# Altium integrated library Xilinx PLD XC9500.IntLib: 114 symbols (part 5 of 7)
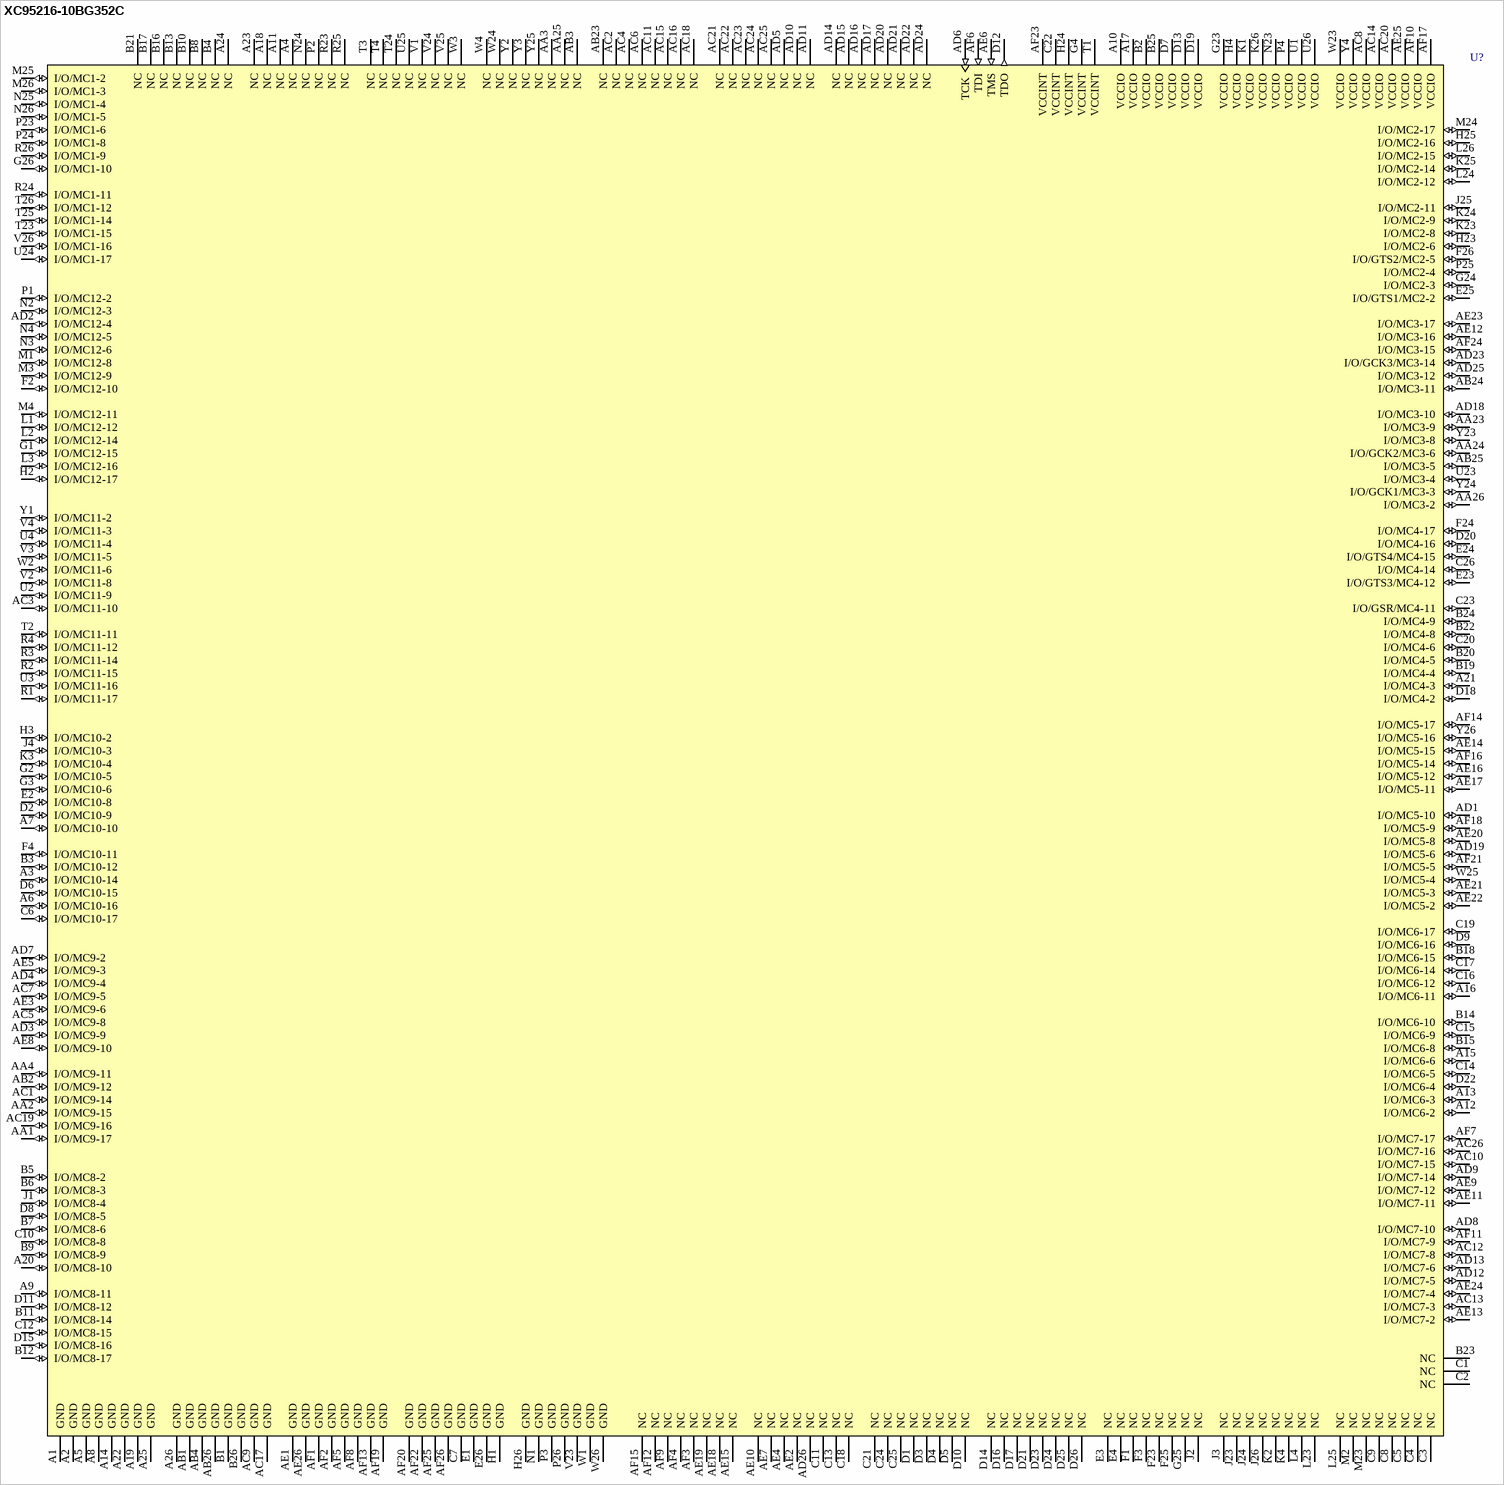
[diagram p54: symbol XC95216-10BG352C]

## XC95216-10BG352C
designator U?
XC9500, 5V CPLD with 216 Macrocells, 352-Ball BGA, Commercial Grade; PackageDocument: ver1.1, Apr-2001; Published: 8-Jun-2000; LatestRevisionDate: 17-Jul-2002; LatestRevisionNote: Re-released for DXP Platform.; DatasheetDocument: ver4.1, Aug-2003; PackageReference: BG352; Publisher: Altium Limited; Code_JEDEC: MO-192-BAR-2
footprint BG352 (352-Ball Metal Ball Grid Array (BG352))
3D model XC95216-BG352 (352-Ball Metal Ball Grid Array (BG352))
signal-integrity model XC95216_BGA352 (XC9500)
pins: A1 GND (power), A2 GND (power), A3 I/O/MC10-14 (io), A4 NC, A5 GND (power), A6 I/O/MC10-16 (io), A7 I/O/MC10-10 (io), A8 GND (power), A9 I/O/MC8-11 (io), A10 VCCIO (power), A11 NC, A12 I/O/MC6-2 (io), A13 I/O/MC6-3 (io), A14 GND (power), A15 I/O/MC6-6 (io), A16 I/O/MC6-11 (io), A17 VCCIO (power), A18 NC, A19 GND (power), A20 I/O/MC8-10 (io), A21 I/O/MC4-3 (io), A22 GND (power), A23 NC, A24 NC, A25 GND (power), A26 GND (power), AA1 I/O/MC9-17 (io), AA2 I/O/MC9-15 (io), AA3 NC, AA4 I/O/MC9-11 (io), AA23 I/O/MC3-9 (io), AA24 I/O/GCK2/MC3-6 (io), AA25 NC, AA26 I/O/MC3-2 (io), AB1 GND (power), AB2 I/O/MC9-12 (io), AB3 NC, AB4 GND (power), AB23 NC, AB24 I/O/MC3-11 (io), AB25 I/O/MC3-5 (io), AB26 GND (power), AC1 I/O/MC9-14 (io), AC2 NC, AC3 I/O/MC11-10 (io), AC4 NC, AC5 I/O/MC9-8 (io), AC6 NC, AC7 I/O/MC9-5 (io), AC8 VCCIO (power), AC9 GND (power), AC10 I/O/MC7-15 (io), AC11 NC, AC12 I/O/MC7-8 (io), AC13 I/O/MC7-3 (io), AC14 VCCIO (power), AC15 NC, AC16 NC, AC17 GND (power), AC18 NC, AC19 I/O/MC9-16 (io), AC20 VCCIO (power), AC21 NC, AC22 NC, AC23 NC, AC24 NC, AC25 NC, AC26 I/O/MC7-16 (io), AD1 I/O/MC5-10 (io), AD2 I/O/MC12-4 (io), AD3 I/O/MC9-9 (io), AD4 I/O/MC9-4 (io), AD5 NC, AD6 TCK (in), AD7 I/O/MC9-2 (io), AD8 I/O/MC7-10 (io), AD9 I/O/MC7-14 (io), AD10 NC, AD11 NC, AD12 I/O/MC7-5 (io), AD13 I/O/MC7-6 (io), AD14 NC, AD15 NC, AD16 NC, AD17 NC, AD18 I/O/MC3-10 (io), AD19 I/O/MC5-6 (io), AD20 NC, AD21 NC, AD22 NC, AD23 I/O/GCK3/MC3-14 (io), AD24 NC, AD25 I/O/MC3-12 (io), AD26 NC, AE1 GND (power), AE2 NC, AE3 I/O/MC9-6 (io), AE4 NC, AE5 I/O/MC9-3 (io), AE6 TMS (in), AE7 NC, AE8 I/O/MC9-10 (io), AE9 I/O/MC7-12 (io), AE10 NC, AE11 I/O/MC7-11 (io), AE12 I/O/MC3-16 (io), AE13 I/O/MC7-2 (io), AE14 I/O/MC5-15 (io), AE15 NC, AE16 I/O/MC5-12 (io), AE17 I/O/MC5-11 (io), AE18 NC, AE19 NC, AE20 I/O/MC5-8 (io), AE21 I/O/MC5-3 (io), AE22 I/O/MC5-2 (io), AE23 I/O/MC3-17 (io), AE24 I/O/MC7-4 (io), AE25 VCCIO (power), AE26 GND (power), AF1 GND (power), AF2 GND (power), AF3 NC, AF4 NC, AF5 GND (power), AF6 TDI (in), AF7 I/O/MC7-17 (io), AF8 GND (power), AF9 NC, AF10 VCCIO (power), AF11 I/O/MC7-9 (io), AF12 NC, AF13 GND (power), AF14 I/O/MC5-17 (io), AF15 NC, AF16 I/O/MC5-14 (io), AF17 VCCIO (power), AF18 I/O/MC5-9 (io), AF19 GND (power), AF20 GND (power), AF21 I/O/MC5-5 (io), AF22 GND (power), AF23 VCCINT (power), AF24 I/O/MC3-15 (io), AF25 GND (power), AF26 GND (power), B1 GND (power), B2 VCCIO (power), B3 I/O/MC10-12 (io), B4 NC, B5 I/O/MC8-2 (io), B6 I/O/MC8-3 (io), B7 I/O/MC8-6 (io), B8 NC, B9 I/O/MC8-9 (io), B10 NC, B11 I/O/MC8-14 (io), B12 I/O/MC8-17 (io), B13 NC, B14 I/O/MC6-10 (io), B15 I/O/MC6-8 (io), B16 NC, B17 NC, B18 I/O/MC6-15 (io), B19 I/O/MC4-4 (io), B20 I/O/MC4-5 (io), B21 NC, B22 I/O/MC4-8 (io), B23 NC, B24 I/O/MC4-9 (io), B25 VCCIO (power), B26 GND (power), C1 NC, C2 NC, C3 NC, C4 NC, C5 NC, C6 I/O/MC10-17 (io), C7 GND (power), C8 NC, C9 NC, C10 I/O/MC8-8 (io), C11 NC, C12 I/O/MC8-15 (io), C13 NC, C14 I/O/MC6-5 (io), C15 I/O/MC6-9 (io), C16 I/O/MC6-12 (io), C17 I/O/MC6-14 (io), C18 NC, C19 I/O/MC6-17 (io), C20 I/O/MC4-6 (io), C21 NC, C22 VCCINT (power), C23 I/O/GSR/MC4-11 (io), C24 NC, C25 NC, C26 I/O/MC4-14 (io), D1 NC, D2 I/O/MC10-9 (io), D3 NC, D4 NC, D5 NC, D6 I/O/MC10-15 (io), D7 VCCIO (power), D8 I/O/MC8-5 (io), D9 I/O/MC6-16 (io), D10 NC, D11 I/O/MC8-12 (io), D12 TDO (out), D13 VCCIO (power), D14 NC, D15 I/O/MC8-16 (io), D16 NC, D17 NC, D18 I/O/MC4-2 (io), D19 VCCIO (power), D20 I/O/MC4-16 (io), D21 NC, D22 I/O/MC6-4 (io), D23 NC, D24 NC, D25 NC, D26 NC, E1 GND (power), E2 I/O/MC10-8 (io), E3 NC, E4 NC, E23 I/O/GTS3/MC4-12 (io), E24 I/O/GTS4/MC4-15 (io), E25 I/O/GTS1/MC2-2 (io), E26 GND (power), F1 NC, F2 I/O/MC12-10 (io), F3 NC, F4 I/O/MC10-11 (io), F23 NC, F24 I/O/MC4-17 (io), F25 NC, F26 I/O/GTS2/MC2-5 (io), G1 I/O/MC12-15 (io), G2 I/O/MC10-5 (io), G3 I/O/MC10-6 (io), G4 VCCINT (power), G23 VCCIO (power), G24 I/O/MC2-3 (io), G25 NC, G26 I/O/MC1-10 (io), H1 GND (power), H2 I/O/MC12-17 (io), H3 I/O/MC10-2 (io), H4 VCCIO (power), H23 I/O/MC2-6 (io), H24 VCCINT (power), H25 I/O/MC2-16 (io), H26 GND (power), J1 I/O/MC8-4 (io), J2 NC, J3 NC, J4 I/O/MC10-3 (io), J23 NC, J24 NC, J25 I/O/MC2-11 (io), J26 NC, K1 VCCIO (power), K2 NC, K3 I/O/MC10-4 (io), K4 NC, K23 I/O/MC2-8 (io), K24 I/O/MC2-9 (io), K25 I/O/MC2-14 (io), K26 VCCIO (power), L1 I/O/MC12-12 (io), L2 I/O/MC12-14 (io), L3 I/O/MC12-16 (io), L4 NC, L23 NC, L24 I/O/MC2-12 (io), L25 NC, L26 I/O/MC2-15 (io), M1 I/O/MC12-8 (io), M2 NC, M3 I/O/MC12-9 (io), M4 I/O/MC12-11 (io), M23 NC, M24 I/O/MC2-17 (io), M25 I/O/MC1-2 (io), M26 I/O/MC1-3 (io), N1 GND (power), N2 I/O/MC12-3 (io), N3 I/O/MC12-6 (io), N4 I/O/MC12-5 (io), N23 VCCIO (power), N24 NC, N25 I/O/MC1-4 (io), N26 I/O/MC1-5 (io), P1 I/O/MC12-2 (io), P2 NC, P3 GND (power), P4 VCCIO (power), P23 I/O/MC1-6 (io), P24 I/O/MC1-8 (io), P25 I/O/MC2-4 (io), P26 GND (power), R1 I/O/MC11-17 (io), R2 I/O/MC11-15 (io), R3 I/O/MC11-14 (io), R4 I/O/MC11-12 (io), R23 NC, R24 I/O/MC1-11 (io), R25 NC, R26 I/O/MC1-9 (io), T1 VCCINT (power), T2 I/O/MC11-11 (io), T3 NC, T4 NC, T23 I/O/MC1-15 (io), T24 NC, T25 I/O/MC1-14 (io), T26 I/O/MC1-12 (io), U1 VCCIO (power), U2 I/O/MC11-9 (io), U3 I/O/MC11-16 (io), U4 I/O/MC11-4 (io), U23 I/O/MC3-4 (io), U24 I/O/MC1-17 (io), U25 NC, U26 VCCIO (power), V1 NC, V2 I/O/MC11-8 (io), V3 I/O/MC11-5 (io), V4 I/O/MC11-3 (io), V23 GND (power), V24 NC, V25 NC, V26 I/O/MC1-16 (io), W1 GND (power), W2 I/O/MC11-6 (io), W3 NC, W4 NC, W23 VCCIO (power), W24 NC, W25 I/O/MC5-4 (io), W26 GND (power), Y1 I/O/MC11-2 (io), Y2 NC, Y3 NC, Y4 VCCIO (power), Y23 I/O/MC3-8 (io), Y24 I/O/GCK1/MC3-3 (io), Y25 NC, Y26 I/O/MC5-16 (io)

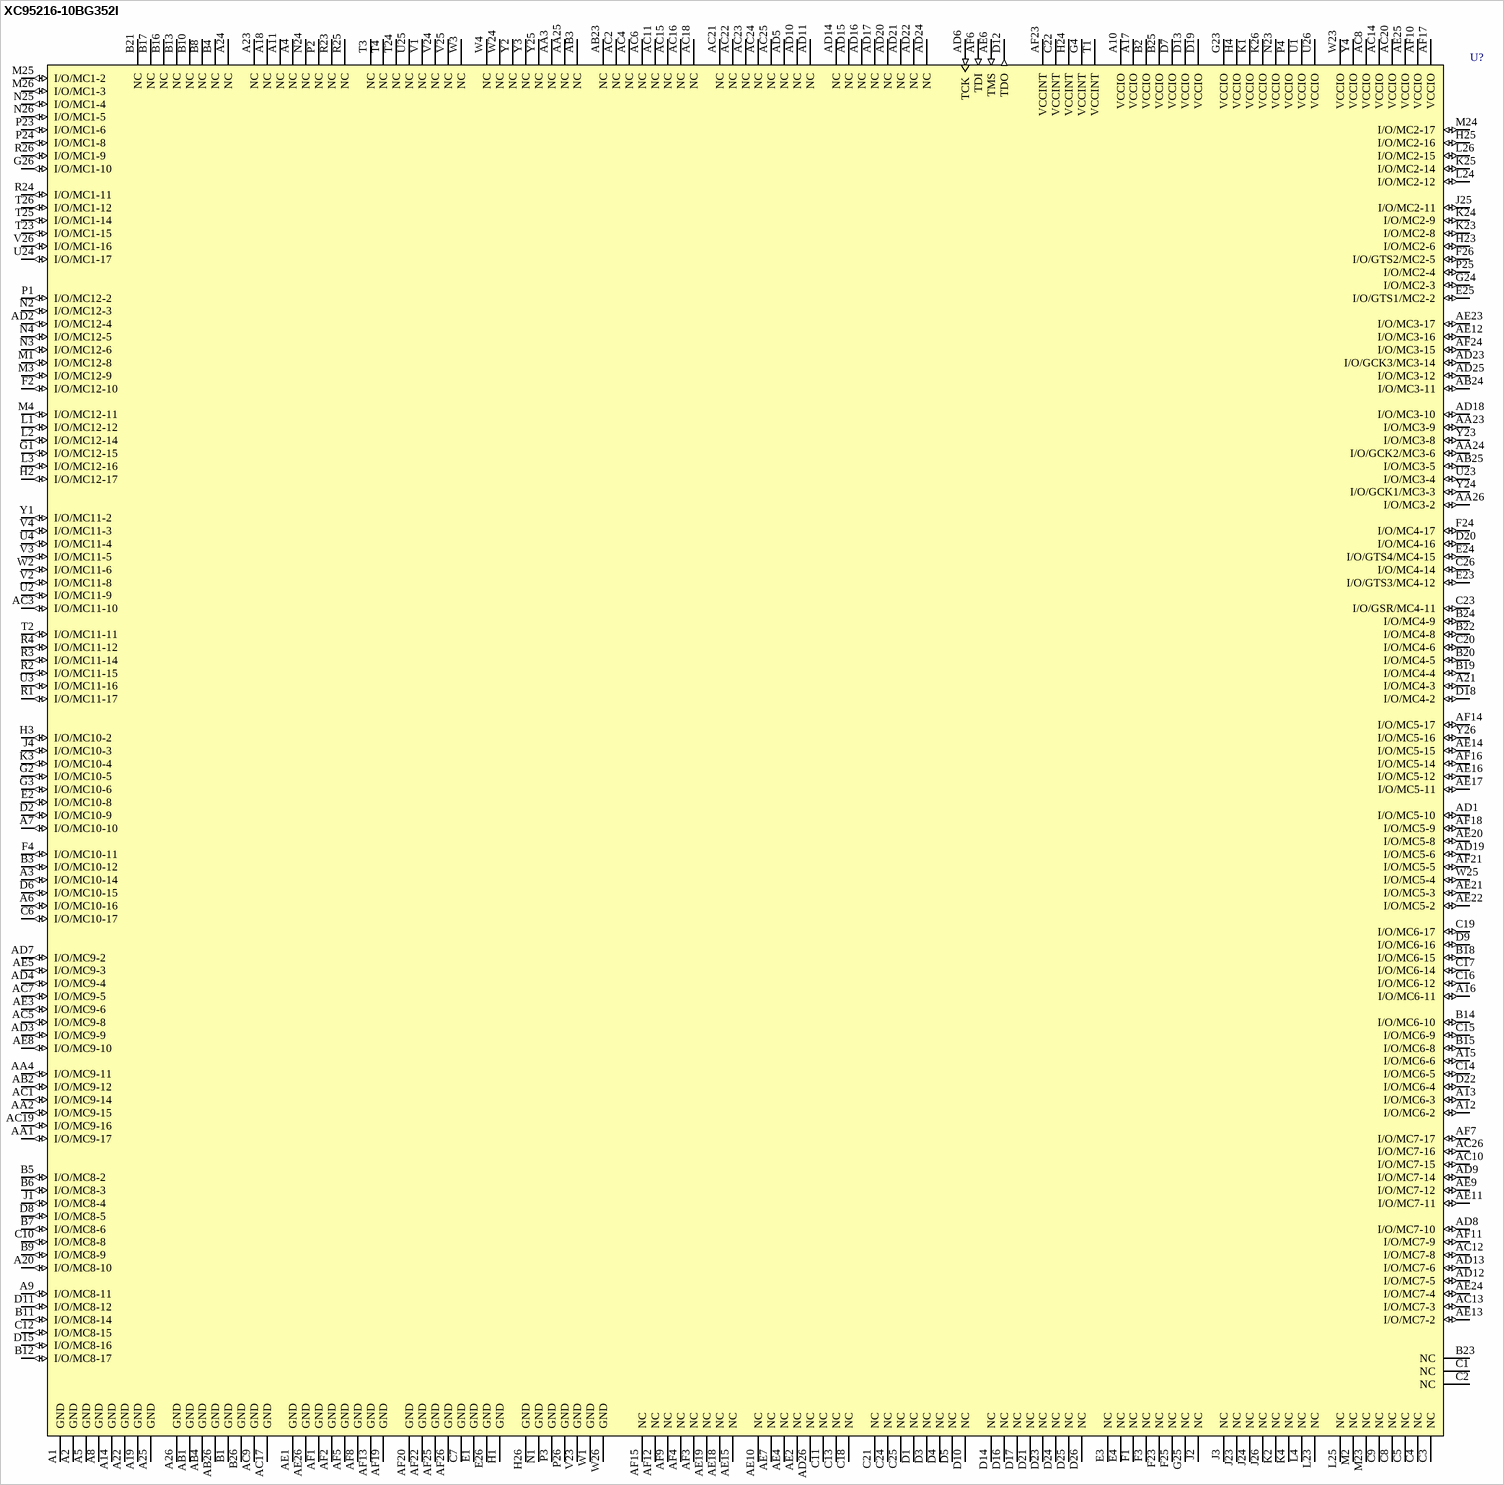
[diagram p24: symbol XC95216-10BG352I]

## XC95216-10BG352I
designator U?
XC9500, 5V CPLD with 216 Macrocells, 352-Ball BGA, Industrial Grade; PackageDocument: ver1.1, Apr-2001; Published: 17-Sep-2003; DatasheetDocument: ver4.1, Aug-2003; PackageReference: BG352; Publisher: Altium Limited; Code_JEDEC: MO-192-BAR-2
footprint BG352 (352-Ball Metal Ball Grid Array (BG352))
3D model XC95216-BG352 (352-Ball Metal Ball Grid Array (BG352))
signal-integrity model XC95216_BGA352 (XC9500)
pins: A1 GND (power), A2 GND (power), A3 I/O/MC10-14 (io), A4 NC, A5 GND (power), A6 I/O/MC10-16 (io), A7 I/O/MC10-10 (io), A8 GND (power), A9 I/O/MC8-11 (io), A10 VCCIO (power), A11 NC, A12 I/O/MC6-2 (io), A13 I/O/MC6-3 (io), A14 GND (power), A15 I/O/MC6-6 (io), A16 I/O/MC6-11 (io), A17 VCCIO (power), A18 NC, A19 GND (power), A20 I/O/MC8-10 (io), A21 I/O/MC4-3 (io), A22 GND (power), A23 NC, A24 NC, A25 GND (power), A26 GND (power), AA1 I/O/MC9-17 (io), AA2 I/O/MC9-15 (io), AA3 NC, AA4 I/O/MC9-11 (io), AA23 I/O/MC3-9 (io), AA24 I/O/GCK2/MC3-6 (io), AA25 NC, AA26 I/O/MC3-2 (io), AB1 GND (power), AB2 I/O/MC9-12 (io), AB3 NC, AB4 GND (power), AB23 NC, AB24 I/O/MC3-11 (io), AB25 I/O/MC3-5 (io), AB26 GND (power), AC1 I/O/MC9-14 (io), AC2 NC, AC3 I/O/MC11-10 (io), AC4 NC, AC5 I/O/MC9-8 (io), AC6 NC, AC7 I/O/MC9-5 (io), AC8 VCCIO (power), AC9 GND (power), AC10 I/O/MC7-15 (io), AC11 NC, AC12 I/O/MC7-8 (io), AC13 I/O/MC7-3 (io), AC14 VCCIO (power), AC15 NC, AC16 NC, AC17 GND (power), AC18 NC, AC19 I/O/MC9-16 (io), AC20 VCCIO (power), AC21 NC, AC22 NC, AC23 NC, AC24 NC, AC25 NC, AC26 I/O/MC7-16 (io), AD1 I/O/MC5-10 (io), AD2 I/O/MC12-4 (io), AD3 I/O/MC9-9 (io), AD4 I/O/MC9-4 (io), AD5 NC, AD6 TCK (in), AD7 I/O/MC9-2 (io), AD8 I/O/MC7-10 (io), AD9 I/O/MC7-14 (io), AD10 NC, AD11 NC, AD12 I/O/MC7-5 (io), AD13 I/O/MC7-6 (io), AD14 NC, AD15 NC, AD16 NC, AD17 NC, AD18 I/O/MC3-10 (io), AD19 I/O/MC5-6 (io), AD20 NC, AD21 NC, AD22 NC, AD23 I/O/GCK3/MC3-14 (io), AD24 NC, AD25 I/O/MC3-12 (io), AD26 NC, AE1 GND (power), AE2 NC, AE3 I/O/MC9-6 (io), AE4 NC, AE5 I/O/MC9-3 (io), AE6 TMS (in), AE7 NC, AE8 I/O/MC9-10 (io), AE9 I/O/MC7-12 (io), AE10 NC, AE11 I/O/MC7-11 (io), AE12 I/O/MC3-16 (io), AE13 I/O/MC7-2 (io), AE14 I/O/MC5-15 (io), AE15 NC, AE16 I/O/MC5-12 (io), AE17 I/O/MC5-11 (io), AE18 NC, AE19 NC, AE20 I/O/MC5-8 (io), AE21 I/O/MC5-3 (io), AE22 I/O/MC5-2 (io), AE23 I/O/MC3-17 (io), AE24 I/O/MC7-4 (io), AE25 VCCIO (power), AE26 GND (power), AF1 GND (power), AF2 GND (power), AF3 NC, AF4 NC, AF5 GND (power), AF6 TDI (in), AF7 I/O/MC7-17 (io), AF8 GND (power), AF9 NC, AF10 VCCIO (power), AF11 I/O/MC7-9 (io), AF12 NC, AF13 GND (power), AF14 I/O/MC5-17 (io), AF15 NC, AF16 I/O/MC5-14 (io), AF17 VCCIO (power), AF18 I/O/MC5-9 (io), AF19 GND (power), AF20 GND (power), AF21 I/O/MC5-5 (io), AF22 GND (power), AF23 VCCINT (power), AF24 I/O/MC3-15 (io), AF25 GND (power), AF26 GND (power), B1 GND (power), B2 VCCIO (power), B3 I/O/MC10-12 (io), B4 NC, B5 I/O/MC8-2 (io), B6 I/O/MC8-3 (io), B7 I/O/MC8-6 (io), B8 NC, B9 I/O/MC8-9 (io), B10 NC, B11 I/O/MC8-14 (io), B12 I/O/MC8-17 (io), B13 NC, B14 I/O/MC6-10 (io), B15 I/O/MC6-8 (io), B16 NC, B17 NC, B18 I/O/MC6-15 (io), B19 I/O/MC4-4 (io), B20 I/O/MC4-5 (io), B21 NC, B22 I/O/MC4-8 (io), B23 NC, B24 I/O/MC4-9 (io), B25 VCCIO (power), B26 GND (power), C1 NC, C2 NC, C3 NC, C4 NC, C5 NC, C6 I/O/MC10-17 (io), C7 GND (power), C8 NC, C9 NC, C10 I/O/MC8-8 (io), C11 NC, C12 I/O/MC8-15 (io), C13 NC, C14 I/O/MC6-5 (io), C15 I/O/MC6-9 (io), C16 I/O/MC6-12 (io), C17 I/O/MC6-14 (io), C18 NC, C19 I/O/MC6-17 (io), C20 I/O/MC4-6 (io), C21 NC, C22 VCCINT (power), C23 I/O/GSR/MC4-11 (io), C24 NC, C25 NC, C26 I/O/MC4-14 (io), D1 NC, D2 I/O/MC10-9 (io), D3 NC, D4 NC, D5 NC, D6 I/O/MC10-15 (io), D7 VCCIO (power), D8 I/O/MC8-5 (io), D9 I/O/MC6-16 (io), D10 NC, D11 I/O/MC8-12 (io), D12 TDO (out), D13 VCCIO (power), D14 NC, D15 I/O/MC8-16 (io), D16 NC, D17 NC, D18 I/O/MC4-2 (io), D19 VCCIO (power), D20 I/O/MC4-16 (io), D21 NC, D22 I/O/MC6-4 (io), D23 NC, D24 NC, D25 NC, D26 NC, E1 GND (power), E2 I/O/MC10-8 (io), E3 NC, E4 NC, E23 I/O/GTS3/MC4-12 (io), E24 I/O/GTS4/MC4-15 (io), E25 I/O/GTS1/MC2-2 (io), E26 GND (power), F1 NC, F2 I/O/MC12-10 (io), F3 NC, F4 I/O/MC10-11 (io), F23 NC, F24 I/O/MC4-17 (io), F25 NC, F26 I/O/GTS2/MC2-5 (io), G1 I/O/MC12-15 (io), G2 I/O/MC10-5 (io), G3 I/O/MC10-6 (io), G4 VCCINT (power), G23 VCCIO (power), G24 I/O/MC2-3 (io), G25 NC, G26 I/O/MC1-10 (io), H1 GND (power), H2 I/O/MC12-17 (io), H3 I/O/MC10-2 (io), H4 VCCIO (power), H23 I/O/MC2-6 (io), H24 VCCINT (power), H25 I/O/MC2-16 (io), H26 GND (power), J1 I/O/MC8-4 (io), J2 NC, J3 NC, J4 I/O/MC10-3 (io), J23 NC, J24 NC, J25 I/O/MC2-11 (io), J26 NC, K1 VCCIO (power), K2 NC, K3 I/O/MC10-4 (io), K4 NC, K23 I/O/MC2-8 (io), K24 I/O/MC2-9 (io), K25 I/O/MC2-14 (io), K26 VCCIO (power), L1 I/O/MC12-12 (io), L2 I/O/MC12-14 (io), L3 I/O/MC12-16 (io), L4 NC, L23 NC, L24 I/O/MC2-12 (io), L25 NC, L26 I/O/MC2-15 (io), M1 I/O/MC12-8 (io), M2 NC, M3 I/O/MC12-9 (io), M4 I/O/MC12-11 (io), M23 NC, M24 I/O/MC2-17 (io), M25 I/O/MC1-2 (io), M26 I/O/MC1-3 (io), N1 GND (power), N2 I/O/MC12-3 (io), N3 I/O/MC12-6 (io), N4 I/O/MC12-5 (io), N23 VCCIO (power), N24 NC, N25 I/O/MC1-4 (io), N26 I/O/MC1-5 (io), P1 I/O/MC12-2 (io), P2 NC, P3 GND (power), P4 VCCIO (power), P23 I/O/MC1-6 (io), P24 I/O/MC1-8 (io), P25 I/O/MC2-4 (io), P26 GND (power), R1 I/O/MC11-17 (io), R2 I/O/MC11-15 (io), R3 I/O/MC11-14 (io), R4 I/O/MC11-12 (io), R23 NC, R24 I/O/MC1-11 (io), R25 NC, R26 I/O/MC1-9 (io), T1 VCCINT (power), T2 I/O/MC11-11 (io), T3 NC, T4 NC, T23 I/O/MC1-15 (io), T24 NC, T25 I/O/MC1-14 (io), T26 I/O/MC1-12 (io), U1 VCCIO (power), U2 I/O/MC11-9 (io), U3 I/O/MC11-16 (io), U4 I/O/MC11-4 (io), U23 I/O/MC3-4 (io), U24 I/O/MC1-17 (io), U25 NC, U26 VCCIO (power), V1 NC, V2 I/O/MC11-8 (io), V3 I/O/MC11-5 (io), V4 I/O/MC11-3 (io), V23 GND (power), V24 NC, V25 NC, V26 I/O/MC1-16 (io), W1 GND (power), W2 I/O/MC11-6 (io), W3 NC, W4 NC, W23 VCCIO (power), W24 NC, W25 I/O/MC5-4 (io), W26 GND (power), Y1 I/O/MC11-2 (io), Y2 NC, Y3 NC, Y4 VCCIO (power), Y23 I/O/MC3-8 (io), Y24 I/O/GCK1/MC3-3 (io), Y25 NC, Y26 I/O/MC5-16 (io)

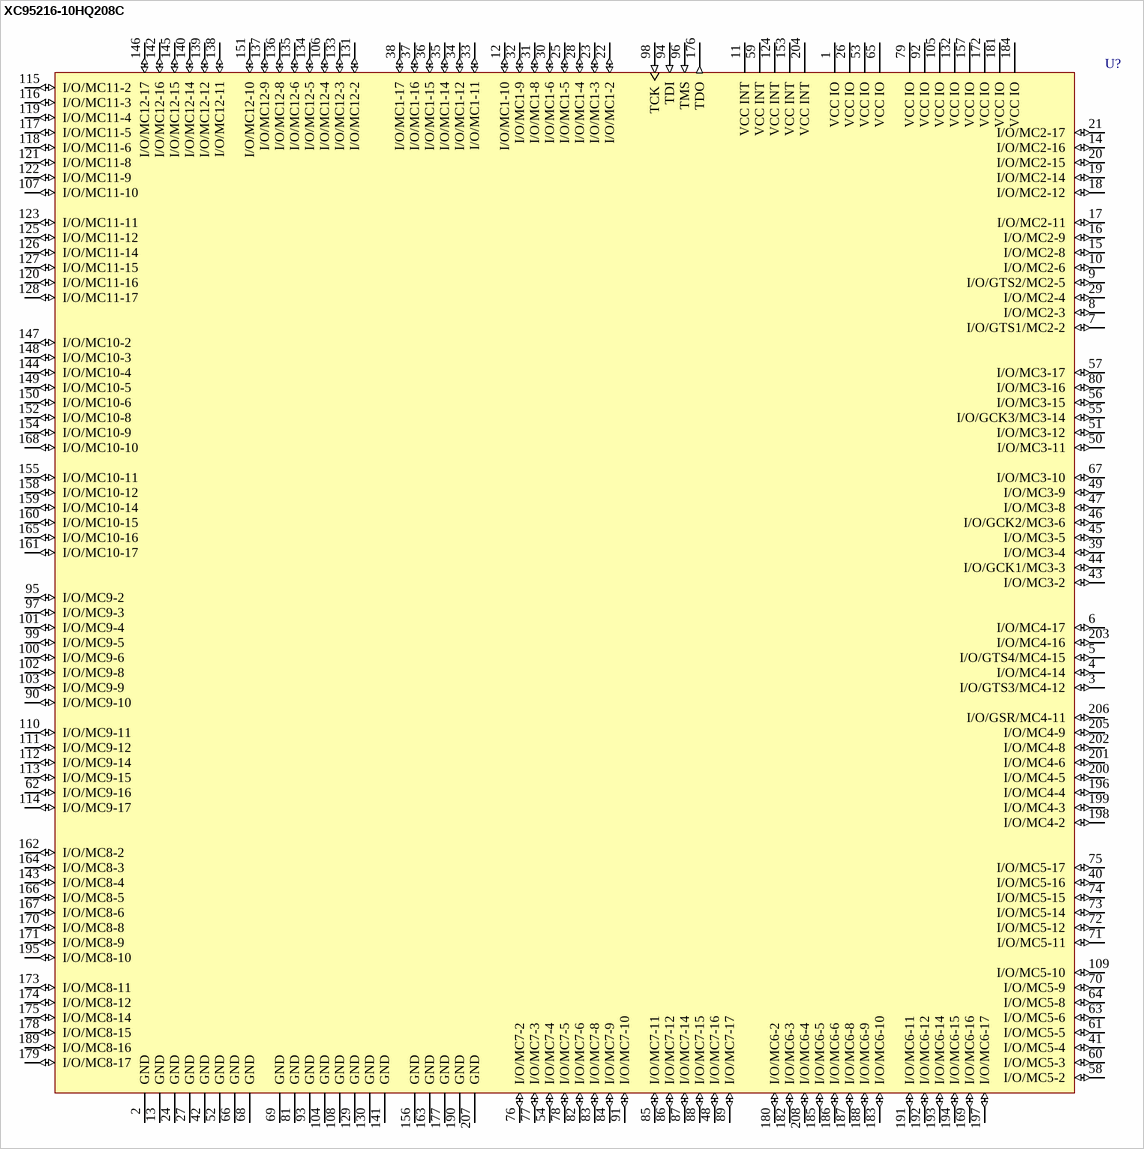
[diagram p25: symbol XC95216-10HQ208C]

## XC95216-10HQ208C
designator U?
XC9500, 5V CPLD with 216 Macrocells, 208-Pin HQFP, Commercial Grade; PackageDocument: ver1.1, Oct-2002; Published: 8-Jun-2000; LatestRevisionDate: 17-Sep-2003; LatestRevisionNote: PCB Footprint dimensions updated; DatasheetDocument: ver4.1, Aug-2003; PackageReference: HQ208; Publisher: Altium Limited; Code_JEDEC: MS-029-FA-1
footprint HQ208 (208-Pin Heat Sink Quad Flat Pack (HQ208))
3D model XC95216-HQ208 (208-Pin Heat Sink Quad Flat Pack (HQ208))
signal-integrity model XC95216_HQ208 (XC9500)
pins: 1 VCC IO (power), 2 GND (power), 3 I/O/GTS3/MC4-12 (io), 4 I/O/MC4-14 (io), 5 I/O/GTS4/MC4-15 (io), 6 I/O/MC4-17 (io), 7 I/O/GTS1/MC2-2 (io), 8 I/O/MC2-3 (io), 9 I/O/GTS2/MC2-5 (io), 10 I/O/MC2-6 (io), 11 VCC INT (power), 12 I/O/MC1-10 (io), 13 GND (power), 14 I/O/MC2-16 (io), 15 I/O/MC2-8 (io), 16 I/O/MC2-9 (io), 17 I/O/MC2-11 (io), 18 I/O/MC2-12 (io), 19 I/O/MC2-14 (io), 20 I/O/MC2-15 (io), 21 I/O/MC2-17 (io), 22 I/O/MC1-2 (io), 23 I/O/MC1-3 (io), 24 GND (power), 25 I/O/MC1-5 (io), 26 VCC IO (power), 27 GND (power), 28 I/O/MC1-4 (io), 29 I/O/MC2-4 (io), 30 I/O/MC1-6 (io), 31 I/O/MC1-8 (io), 32 I/O/MC1-9 (io), 33 I/O/MC1-11 (io), 34 I/O/MC1-12 (io), 35 I/O/MC1-14 (io), 36 I/O/MC1-15 (io), 37 I/O/MC1-16 (io), 38 I/O/MC1-17 (io), 39 I/O/MC3-4 (io), 40 I/O/MC5-16 (io), 41 I/O/MC5-4 (io), 42 GND (power), 43 I/O/MC3-2 (io), 44 I/O/GCK1/MC3-3 (io), 45 I/O/MC3-5 (io), 46 I/O/GCK2/MC3-6 (io), 47 I/O/MC3-8 (io), 48 I/O/MC7-16 (io), 49 I/O/MC3-9 (io), 50 I/O/MC3-11 (io), 51 I/O/MC3-12 (io), 52 GND (power), 53 VCC IO (power), 54 I/O/MC7-4 (io), 55 I/O/GCK3/MC3-14 (io), 56 I/O/MC3-15 (io), 57 I/O/MC3-17 (io), 58 I/O/MC5-2 (io), 59 VCC INT (power), 60 I/O/MC5-3 (io), 61 I/O/MC5-5 (io), 62 I/O/MC9-16 (io), 63 I/O/MC5-6 (io), 64 I/O/MC5-8 (io), 65 VCC IO (power), 66 GND (power), 67 I/O/MC3-10 (io), 68 GND (power), 69 GND (power), 70 I/O/MC5-9 (io), 71 I/O/MC5-11 (io), 72 I/O/MC5-12 (io), 73 I/O/MC5-14 (io), 74 I/O/MC5-15 (io), 75 I/O/MC5-17 (io), 76 I/O/MC7-2 (io), 77 I/O/MC7-3 (io), 78 I/O/MC7-5 (io), 79 VCC IO (power), 80 I/O/MC3-16 (io), 81 GND (power), 82 I/O/MC7-6 (io), 83 I/O/MC7-8 (io), 84 I/O/MC7-9 (io), 85 I/O/MC7-11 (io), 86 I/O/MC7-12 (io), 87 I/O/MC7-14 (io), 88 I/O/MC7-15 (io), 89 I/O/MC7-17 (io), 90 I/O/MC9-10 (io), 91 I/O/MC7-10 (io), 92 VCC IO (power), 93 GND (power), 94 TDI (in), 95 I/O/MC9-2 (io), 96 TMS (in), 97 I/O/MC9-3 (io), 98 TCK (in), 99 I/O/MC9-5 (io), 100 I/O/MC9-6 (io), 101 I/O/MC9-4 (io), 102 I/O/MC9-8 (io), 103 I/O/MC9-9 (io), 104 GND (power), 105 VCC IO (power), 106 I/O/MC12-4 (io), 107 I/O/MC11-10 (io), 108 GND (power), 109 I/O/MC5-10 (io), 110 I/O/MC9-11 (io), 111 I/O/MC9-12 (io), 112 I/O/MC9-14 (io), 113 I/O/MC9-15 (io), 114 I/O/MC9-17 (io), 115 I/O/MC11-2 (io), 116 I/O/MC11-3 (io), 117 I/O/MC11-5 (io), 118 I/O/MC11-6 (io), 119 I/O/MC11-4 (io), 120 I/O/MC11-16 (io), 121 I/O/MC11-8 (io), 122 I/O/MC11-9 (io), 123 I/O/MC11-11 (io), 124 VCC INT (power), 125 I/O/MC11-12 (io), 126 I/O/MC11-14 (io), 127 I/O/MC11-15 (io), 128 I/O/MC11-17 (io), 129 GND (power), 130 GND (power), 131 I/O/MC12-2 (io), 132 VCC IO (power), 133 I/O/MC12-3 (io), 134 I/O/MC12-5 (io), 135 I/O/MC12-6 (io), 136 I/O/MC12-8 (io), 137 I/O/MC12-9 (io), 138 I/O/MC12-11 (io), 139 I/O/MC12-12 (io), 140 I/O/MC12-14 (io), 141 GND (power), 142 I/O/MC12-16 (io), 143 I/O/MC8-4 (io), 144 I/O/MC10-4 (io), 145 I/O/MC12-15 (io), 146 I/O/MC12-17 (io), 147 I/O/MC10-2 (io), 148 I/O/MC10-3 (io), 149 I/O/MC10-5 (io), 150 I/O/MC10-6 (io), 151 I/O/MC12-10 (io), 152 I/O/MC10-8 (io), 153 VCC INT (power), 154 I/O/MC10-9 (io), 155 I/O/MC10-11 (io), 156 GND (power), 157 VCC IO (power), 158 I/O/MC10-12 (io), 159 I/O/MC10-14 (io), 160 I/O/MC10-15 (io), 161 I/O/MC10-17 (io), 162 I/O/MC8-2 (io), 163 GND (power), 164 I/O/MC8-3 (io), 165 I/O/MC10-16 (io), 166 I/O/MC8-5 (io), 167 I/O/MC8-6 (io), 168 I/O/MC10-10 (io), 169 I/O/MC6-16 (io), 170 I/O/MC8-8 (io), 171 I/O/MC8-9 (io), 172 VCC IO (power), 173 I/O/MC8-11 (io), 174 I/O/MC8-12 (io), 175 I/O/MC8-14 (io), 176 TDO (out), 177 GND (power), 178 I/O/MC8-15 (io), 179 I/O/MC8-17 (io), 180 I/O/MC6-2 (io), 181 VCC IO (power), 182 I/O/MC6-3 (io), 183 I/O/MC6-10 (io), 184 VCC IO (power), 185 I/O/MC6-5 (io), 186 I/O/MC6-6 (io), 187 I/O/MC6-8 (io), 188 I/O/MC6-9 (io), 189 I/O/MC8-16 (io), 190 GND (power), 191 I/O/MC6-11 (io), 192 I/O/MC6-12 (io), 193 I/O/MC6-14 (io), 194 I/O/MC6-15 (io), 195 I/O/MC8-10 (io), 196 I/O/MC4-4 (io), 197 I/O/MC6-17 (io), 198 I/O/MC4-2 (io), 199 I/O/MC4-3 (io), 200 I/O/MC4-5 (io), 201 I/O/MC4-6 (io), 202 I/O/MC4-8 (io), 203 I/O/MC4-16 (io), 204 VCC INT (power), 205 I/O/MC4-9 (io), 206 I/O/GSR/MC4-11 (io), 207 GND (power), 208 I/O/MC6-4 (io)

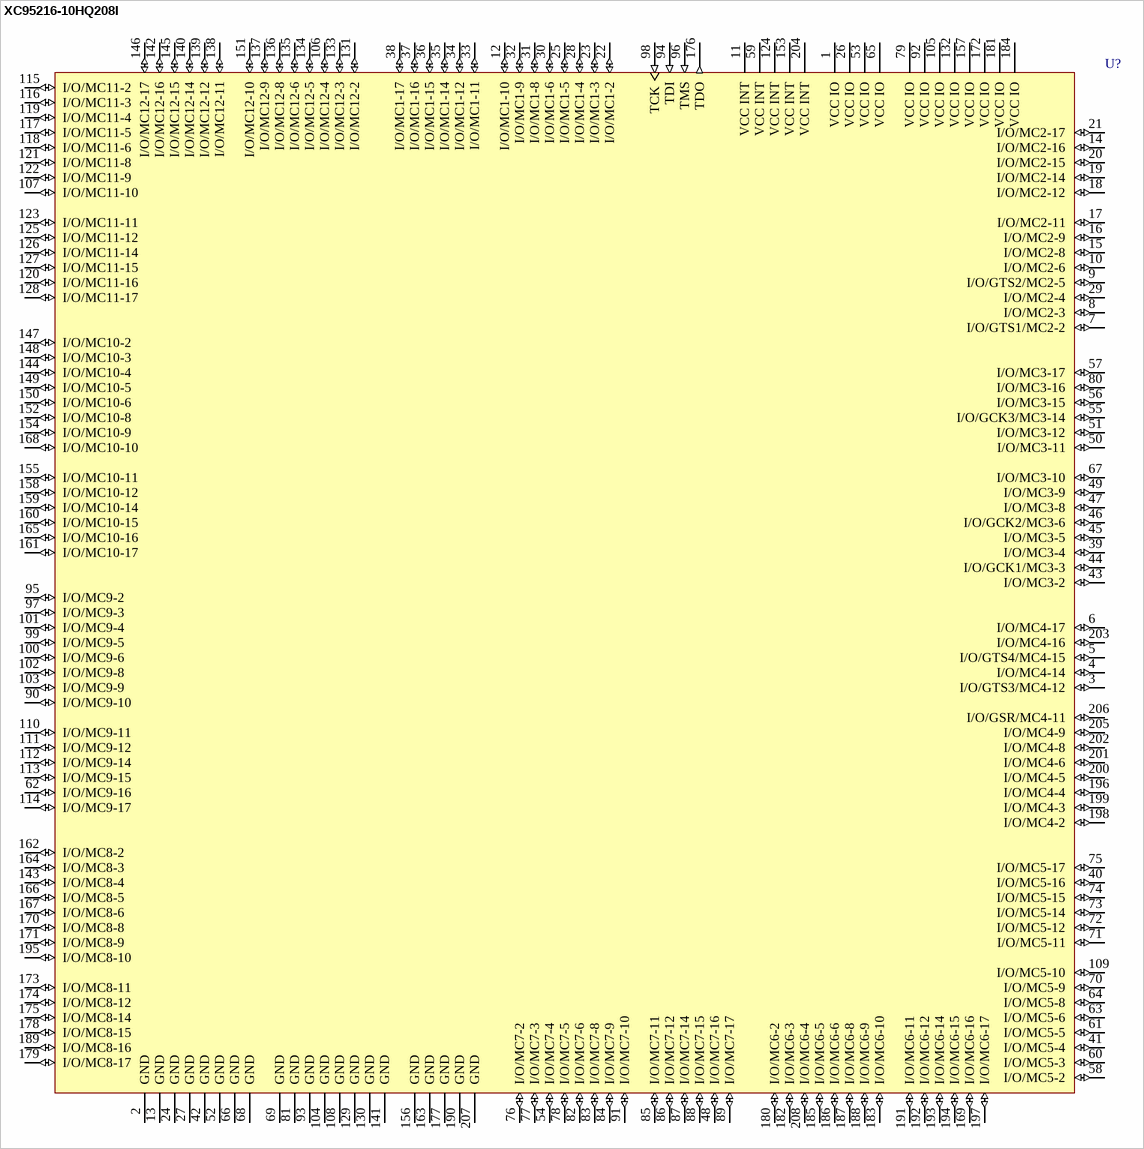
[diagram p26: symbol XC95216-10HQ208I]

## XC95216-10HQ208I
designator U?
XC9500, 5V CPLD with 216 Macrocells, 208-Pin HQFP, Industrial Grade; PackageDocument: ver1.1, Oct-2002; Published: 17-Sep-2003; DatasheetDocument: ver4.1, Aug-2003; PackageReference: HQ208; Publisher: Altium Limited; Code_JEDEC: MS-029-FA-1
footprint HQ208 (208-Pin Heat Sink Quad Flat Pack (HQ208))
3D model XC95216-HQ208 (208-Pin Heat Sink Quad Flat Pack (HQ208))
signal-integrity model XC95216_HQ208 (XC9500)
pins: 1 VCC IO (power), 2 GND (power), 3 I/O/GTS3/MC4-12 (io), 4 I/O/MC4-14 (io), 5 I/O/GTS4/MC4-15 (io), 6 I/O/MC4-17 (io), 7 I/O/GTS1/MC2-2 (io), 8 I/O/MC2-3 (io), 9 I/O/GTS2/MC2-5 (io), 10 I/O/MC2-6 (io), 11 VCC INT (power), 12 I/O/MC1-10 (io), 13 GND (power), 14 I/O/MC2-16 (io), 15 I/O/MC2-8 (io), 16 I/O/MC2-9 (io), 17 I/O/MC2-11 (io), 18 I/O/MC2-12 (io), 19 I/O/MC2-14 (io), 20 I/O/MC2-15 (io), 21 I/O/MC2-17 (io), 22 I/O/MC1-2 (io), 23 I/O/MC1-3 (io), 24 GND (power), 25 I/O/MC1-5 (io), 26 VCC IO (power), 27 GND (power), 28 I/O/MC1-4 (io), 29 I/O/MC2-4 (io), 30 I/O/MC1-6 (io), 31 I/O/MC1-8 (io), 32 I/O/MC1-9 (io), 33 I/O/MC1-11 (io), 34 I/O/MC1-12 (io), 35 I/O/MC1-14 (io), 36 I/O/MC1-15 (io), 37 I/O/MC1-16 (io), 38 I/O/MC1-17 (io), 39 I/O/MC3-4 (io), 40 I/O/MC5-16 (io), 41 I/O/MC5-4 (io), 42 GND (power), 43 I/O/MC3-2 (io), 44 I/O/GCK1/MC3-3 (io), 45 I/O/MC3-5 (io), 46 I/O/GCK2/MC3-6 (io), 47 I/O/MC3-8 (io), 48 I/O/MC7-16 (io), 49 I/O/MC3-9 (io), 50 I/O/MC3-11 (io), 51 I/O/MC3-12 (io), 52 GND (power), 53 VCC IO (power), 54 I/O/MC7-4 (io), 55 I/O/GCK3/MC3-14 (io), 56 I/O/MC3-15 (io), 57 I/O/MC3-17 (io), 58 I/O/MC5-2 (io), 59 VCC INT (power), 60 I/O/MC5-3 (io), 61 I/O/MC5-5 (io), 62 I/O/MC9-16 (io), 63 I/O/MC5-6 (io), 64 I/O/MC5-8 (io), 65 VCC IO (power), 66 GND (power), 67 I/O/MC3-10 (io), 68 GND (power), 69 GND (power), 70 I/O/MC5-9 (io), 71 I/O/MC5-11 (io), 72 I/O/MC5-12 (io), 73 I/O/MC5-14 (io), 74 I/O/MC5-15 (io), 75 I/O/MC5-17 (io), 76 I/O/MC7-2 (io), 77 I/O/MC7-3 (io), 78 I/O/MC7-5 (io), 79 VCC IO (power), 80 I/O/MC3-16 (io), 81 GND (power), 82 I/O/MC7-6 (io), 83 I/O/MC7-8 (io), 84 I/O/MC7-9 (io), 85 I/O/MC7-11 (io), 86 I/O/MC7-12 (io), 87 I/O/MC7-14 (io), 88 I/O/MC7-15 (io), 89 I/O/MC7-17 (io), 90 I/O/MC9-10 (io), 91 I/O/MC7-10 (io), 92 VCC IO (power), 93 GND (power), 94 TDI (in), 95 I/O/MC9-2 (io), 96 TMS (in), 97 I/O/MC9-3 (io), 98 TCK (in), 99 I/O/MC9-5 (io), 100 I/O/MC9-6 (io), 101 I/O/MC9-4 (io), 102 I/O/MC9-8 (io), 103 I/O/MC9-9 (io), 104 GND (power), 105 VCC IO (power), 106 I/O/MC12-4 (io), 107 I/O/MC11-10 (io), 108 GND (power), 109 I/O/MC5-10 (io), 110 I/O/MC9-11 (io), 111 I/O/MC9-12 (io), 112 I/O/MC9-14 (io), 113 I/O/MC9-15 (io), 114 I/O/MC9-17 (io), 115 I/O/MC11-2 (io), 116 I/O/MC11-3 (io), 117 I/O/MC11-5 (io), 118 I/O/MC11-6 (io), 119 I/O/MC11-4 (io), 120 I/O/MC11-16 (io), 121 I/O/MC11-8 (io), 122 I/O/MC11-9 (io), 123 I/O/MC11-11 (io), 124 VCC INT (power), 125 I/O/MC11-12 (io), 126 I/O/MC11-14 (io), 127 I/O/MC11-15 (io), 128 I/O/MC11-17 (io), 129 GND (power), 130 GND (power), 131 I/O/MC12-2 (io), 132 VCC IO (power), 133 I/O/MC12-3 (io), 134 I/O/MC12-5 (io), 135 I/O/MC12-6 (io), 136 I/O/MC12-8 (io), 137 I/O/MC12-9 (io), 138 I/O/MC12-11 (io), 139 I/O/MC12-12 (io), 140 I/O/MC12-14 (io), 141 GND (power), 142 I/O/MC12-16 (io), 143 I/O/MC8-4 (io), 144 I/O/MC10-4 (io), 145 I/O/MC12-15 (io), 146 I/O/MC12-17 (io), 147 I/O/MC10-2 (io), 148 I/O/MC10-3 (io), 149 I/O/MC10-5 (io), 150 I/O/MC10-6 (io), 151 I/O/MC12-10 (io), 152 I/O/MC10-8 (io), 153 VCC INT (power), 154 I/O/MC10-9 (io), 155 I/O/MC10-11 (io), 156 GND (power), 157 VCC IO (power), 158 I/O/MC10-12 (io), 159 I/O/MC10-14 (io), 160 I/O/MC10-15 (io), 161 I/O/MC10-17 (io), 162 I/O/MC8-2 (io), 163 GND (power), 164 I/O/MC8-3 (io), 165 I/O/MC10-16 (io), 166 I/O/MC8-5 (io), 167 I/O/MC8-6 (io), 168 I/O/MC10-10 (io), 169 I/O/MC6-16 (io), 170 I/O/MC8-8 (io), 171 I/O/MC8-9 (io), 172 VCC IO (power), 173 I/O/MC8-11 (io), 174 I/O/MC8-12 (io), 175 I/O/MC8-14 (io), 176 TDO (out), 177 GND (power), 178 I/O/MC8-15 (io), 179 I/O/MC8-17 (io), 180 I/O/MC6-2 (io), 181 VCC IO (power), 182 I/O/MC6-3 (io), 183 I/O/MC6-10 (io), 184 VCC IO (power), 185 I/O/MC6-5 (io), 186 I/O/MC6-6 (io), 187 I/O/MC6-8 (io), 188 I/O/MC6-9 (io), 189 I/O/MC8-16 (io), 190 GND (power), 191 I/O/MC6-11 (io), 192 I/O/MC6-12 (io), 193 I/O/MC6-14 (io), 194 I/O/MC6-15 (io), 195 I/O/MC8-10 (io), 196 I/O/MC4-4 (io), 197 I/O/MC6-17 (io), 198 I/O/MC4-2 (io), 199 I/O/MC4-3 (io), 200 I/O/MC4-5 (io), 201 I/O/MC4-6 (io), 202 I/O/MC4-8 (io), 203 I/O/MC4-16 (io), 204 VCC INT (power), 205 I/O/MC4-9 (io), 206 I/O/GSR/MC4-11 (io), 207 GND (power), 208 I/O/MC6-4 (io)

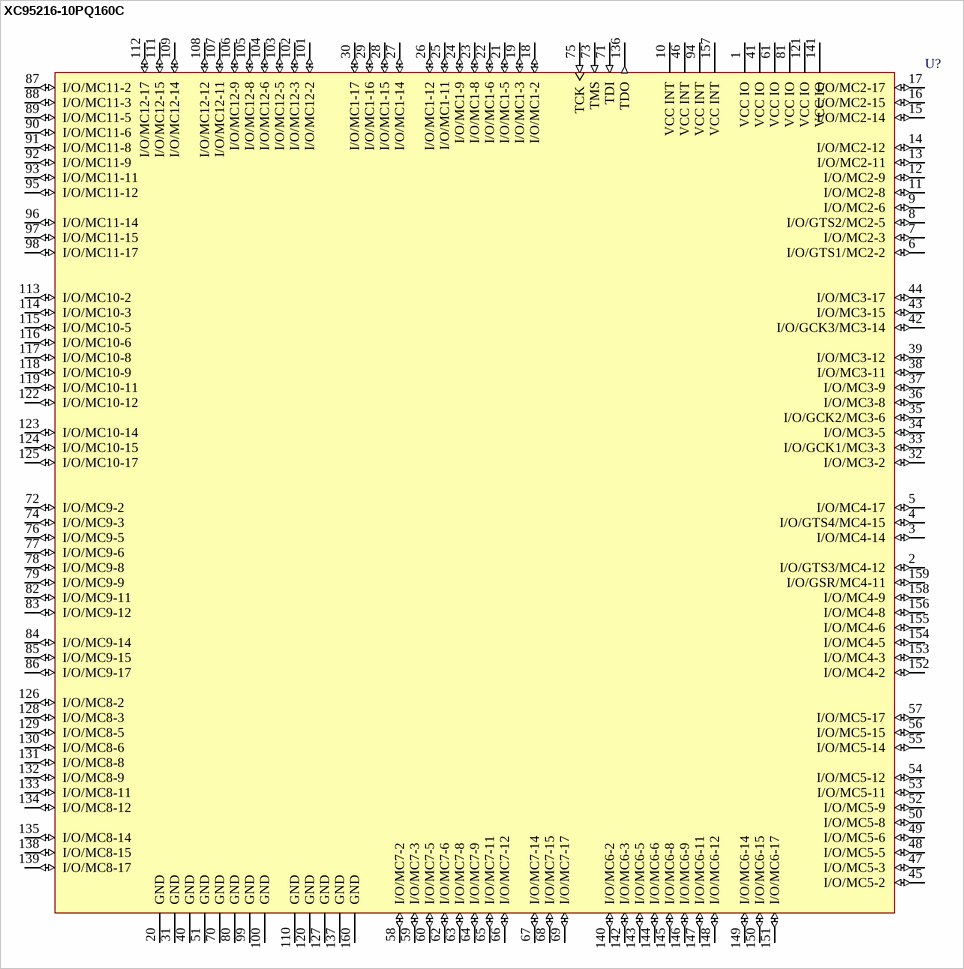
[diagram p27: symbol XC95216-10PQ160C]

## XC95216-10PQ160C
designator U?
XC9500, 5V CPLD with 216 Macrocells, 160-Pin PQFP, Commercial Grade; PackageDocument: ver1.1, Oct-2002; Published: 8-Jun-2000; LatestRevisionDate: 17-Jul-2002; LatestRevisionNote: PCB footprint, 'QFP28x28-G160/D28N' replaced; Re-released for DXP Platform.; DatasheetDocument: ver4.1, Aug-2003; PackageReference: PQ160; Publisher: Altium Limited; Code_JEDEC: MS-022-DD1
footprint PQ160 (160-Pin Plastic Quad Flat Pack (PQ160))
3D model XC95216-PQ160 (160-Pin Plastic Quad Flat Pack (PQ160))
signal-integrity model XC95216_PQ160 (XC9500)
pins: 1 VCC IO (power), 2 I/O/GTS3/MC4-12 (io), 3 I/O/MC4-14 (io), 4 I/O/GTS4/MC4-15 (io), 5 I/O/MC4-17 (io), 6 I/O/GTS1/MC2-2 (io), 7 I/O/MC2-3 (io), 8 I/O/GTS2/MC2-5 (io), 9 I/O/MC2-6 (io), 10 VCC INT (power), 11 I/O/MC2-8 (io), 12 I/O/MC2-9 (io), 13 I/O/MC2-11 (io), 14 I/O/MC2-12 (io), 15 I/O/MC2-14 (io), 16 I/O/MC2-15 (io), 17 I/O/MC2-17 (io), 18 I/O/MC1-2 (io), 19 I/O/MC1-3 (io), 20 GND (power), 21 I/O/MC1-5 (io), 22 I/O/MC1-6 (io), 23 I/O/MC1-8 (io), 24 I/O/MC1-9 (io), 25 I/O/MC1-11 (io), 26 I/O/MC1-12 (io), 27 I/O/MC1-14 (io), 28 I/O/MC1-15 (io), 29 I/O/MC1-16 (io), 30 I/O/MC1-17 (io), 31 GND (power), 32 I/O/MC3-2 (io), 33 I/O/GCK1/MC3-3 (io), 34 I/O/MC3-5 (io), 35 I/O/GCK2/MC3-6 (io), 36 I/O/MC3-8 (io), 37 I/O/MC3-9 (io), 38 I/O/MC3-11 (io), 39 I/O/MC3-12 (io), 40 GND (power), 41 VCC IO (power), 42 I/O/GCK3/MC3-14 (io), 43 I/O/MC3-15 (io), 44 I/O/MC3-17 (io), 45 I/O/MC5-2 (io), 46 VCC INT (power), 47 I/O/MC5-3 (io), 48 I/O/MC5-5 (io), 49 I/O/MC5-6 (io), 50 I/O/MC5-8 (io), 51 GND (power), 52 I/O/MC5-9 (io), 53 I/O/MC5-11 (io), 54 I/O/MC5-12 (io), 55 I/O/MC5-14 (io), 56 I/O/MC5-15 (io), 57 I/O/MC5-17 (io), 58 I/O/MC7-2 (io), 59 I/O/MC7-3 (io), 60 I/O/MC7-5 (io), 61 VCC IO (power), 62 I/O/MC7-6 (io), 63 I/O/MC7-8 (io), 64 I/O/MC7-9 (io), 65 I/O/MC7-11 (io), 66 I/O/MC7-12 (io), 67 I/O/MC7-14 (io), 68 I/O/MC7-15 (io), 69 I/O/MC7-17 (io), 70 GND (power), 71 TDI (in), 72 I/O/MC9-2 (io), 73 TMS (in), 74 I/O/MC9-3 (io), 75 TCK (in), 76 I/O/MC9-5 (io), 77 I/O/MC9-6 (io), 78 I/O/MC9-8 (io), 79 I/O/MC9-9 (io), 80 GND (power), 81 VCC IO (power), 82 I/O/MC9-11 (io), 83 I/O/MC9-12 (io), 84 I/O/MC9-14 (io), 85 I/O/MC9-15 (io), 86 I/O/MC9-17 (io), 87 I/O/MC11-2 (io), 88 I/O/MC11-3 (io), 89 I/O/MC11-5 (io), 90 I/O/MC11-6 (io), 91 I/O/MC11-8 (io), 92 I/O/MC11-9 (io), 93 I/O/MC11-11 (io), 94 VCC INT (power), 95 I/O/MC11-12 (io), 96 I/O/MC11-14 (io), 97 I/O/MC11-15 (io), 98 I/O/MC11-17 (io), 99 GND (power), 100 GND (power), 101 I/O/MC12-2 (io), 102 I/O/MC12-3 (io), 103 I/O/MC12-5 (io), 104 I/O/MC12-6 (io), 105 I/O/MC12-8 (io), 106 I/O/MC12-9 (io), 107 I/O/MC12-11 (io), 108 I/O/MC12-12 (io), 109 I/O/MC12-14 (io), 110 GND (power), 111 I/O/MC12-15 (io), 112 I/O/MC12-17 (io), 113 I/O/MC10-2 (io), 114 I/O/MC10-3 (io), 115 I/O/MC10-5 (io), 116 I/O/MC10-6 (io), 117 I/O/MC10-8 (io), 118 I/O/MC10-9 (io), 119 I/O/MC10-11 (io), 120 GND (power), 121 VCC IO (power), 122 I/O/MC10-12 (io), 123 I/O/MC10-14 (io), 124 I/O/MC10-15 (io), 125 I/O/MC10-17 (io), 126 I/O/MC8-2 (io), 127 GND (power), 128 I/O/MC8-3 (io), 129 I/O/MC8-5 (io), 130 I/O/MC8-6 (io), 131 I/O/MC8-8 (io), 132 I/O/MC8-9 (io), 133 I/O/MC8-11 (io), 134 I/O/MC8-12 (io), 135 I/O/MC8-14 (io), 136 TDO (out), 137 GND (power), 138 I/O/MC8-15 (io), 139 I/O/MC8-17 (io), 140 I/O/MC6-2 (io), 141 VCC IO (power), 142 I/O/MC6-3 (io), 143 I/O/MC6-5 (io), 144 I/O/MC6-6 (io), 145 I/O/MC6-8 (io), 146 I/O/MC6-9 (io), 147 I/O/MC6-11 (io), 148 I/O/MC6-12 (io), 149 I/O/MC6-14 (io), 150 I/O/MC6-15 (io), 151 I/O/MC6-17 (io), 152 I/O/MC4-2 (io), 153 I/O/MC4-3 (io), 154 I/O/MC4-5 (io), 155 I/O/MC4-6 (io), 156 I/O/MC4-8 (io), 157 VCC INT (power), 158 I/O/MC4-9 (io), 159 I/O/GSR/MC4-11 (io), 160 GND (power)

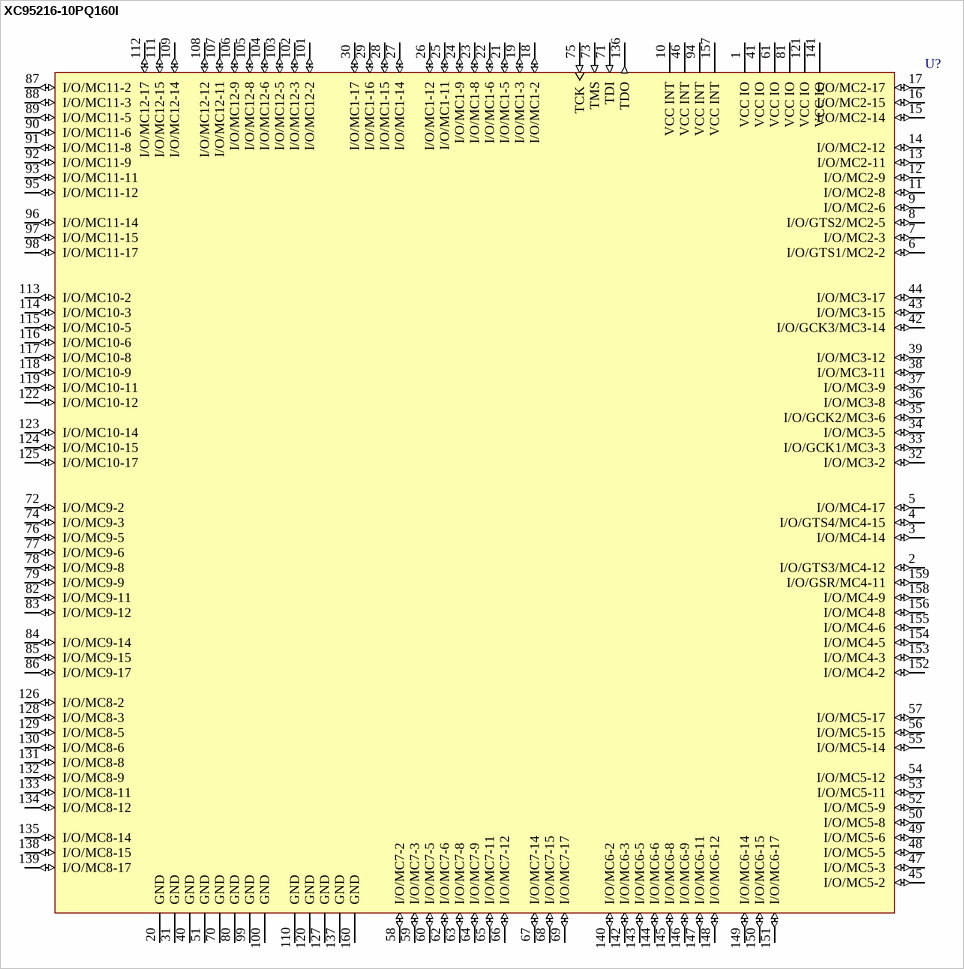
[diagram p28: symbol XC95216-10PQ160I]

## XC95216-10PQ160I
designator U?
XC9500, 5V CPLD with 216 Macrocells, 160-Pin PQFP, Industrial Grade; PackageDocument: ver1.1, Oct-2002; Published: 17-Sep-2003; DatasheetDocument: ver4.1, Aug-2003; PackageReference: PQ160; Publisher: Altium Limited; Code_JEDEC: MS-022-DD1
footprint PQ160 (160-Pin Plastic Quad Flat Pack (PQ160))
3D model XC95216-PQ160 (160-Pin Plastic Quad Flat Pack (PQ160))
signal-integrity model XC95216_PQ160 (XC9500)
pins: 1 VCC IO (power), 2 I/O/GTS3/MC4-12 (io), 3 I/O/MC4-14 (io), 4 I/O/GTS4/MC4-15 (io), 5 I/O/MC4-17 (io), 6 I/O/GTS1/MC2-2 (io), 7 I/O/MC2-3 (io), 8 I/O/GTS2/MC2-5 (io), 9 I/O/MC2-6 (io), 10 VCC INT (power), 11 I/O/MC2-8 (io), 12 I/O/MC2-9 (io), 13 I/O/MC2-11 (io), 14 I/O/MC2-12 (io), 15 I/O/MC2-14 (io), 16 I/O/MC2-15 (io), 17 I/O/MC2-17 (io), 18 I/O/MC1-2 (io), 19 I/O/MC1-3 (io), 20 GND (power), 21 I/O/MC1-5 (io), 22 I/O/MC1-6 (io), 23 I/O/MC1-8 (io), 24 I/O/MC1-9 (io), 25 I/O/MC1-11 (io), 26 I/O/MC1-12 (io), 27 I/O/MC1-14 (io), 28 I/O/MC1-15 (io), 29 I/O/MC1-16 (io), 30 I/O/MC1-17 (io), 31 GND (power), 32 I/O/MC3-2 (io), 33 I/O/GCK1/MC3-3 (io), 34 I/O/MC3-5 (io), 35 I/O/GCK2/MC3-6 (io), 36 I/O/MC3-8 (io), 37 I/O/MC3-9 (io), 38 I/O/MC3-11 (io), 39 I/O/MC3-12 (io), 40 GND (power), 41 VCC IO (power), 42 I/O/GCK3/MC3-14 (io), 43 I/O/MC3-15 (io), 44 I/O/MC3-17 (io), 45 I/O/MC5-2 (io), 46 VCC INT (power), 47 I/O/MC5-3 (io), 48 I/O/MC5-5 (io), 49 I/O/MC5-6 (io), 50 I/O/MC5-8 (io), 51 GND (power), 52 I/O/MC5-9 (io), 53 I/O/MC5-11 (io), 54 I/O/MC5-12 (io), 55 I/O/MC5-14 (io), 56 I/O/MC5-15 (io), 57 I/O/MC5-17 (io), 58 I/O/MC7-2 (io), 59 I/O/MC7-3 (io), 60 I/O/MC7-5 (io), 61 VCC IO (power), 62 I/O/MC7-6 (io), 63 I/O/MC7-8 (io), 64 I/O/MC7-9 (io), 65 I/O/MC7-11 (io), 66 I/O/MC7-12 (io), 67 I/O/MC7-14 (io), 68 I/O/MC7-15 (io), 69 I/O/MC7-17 (io), 70 GND (power), 71 TDI (in), 72 I/O/MC9-2 (io), 73 TMS (in), 74 I/O/MC9-3 (io), 75 TCK (in), 76 I/O/MC9-5 (io), 77 I/O/MC9-6 (io), 78 I/O/MC9-8 (io), 79 I/O/MC9-9 (io), 80 GND (power), 81 VCC IO (power), 82 I/O/MC9-11 (io), 83 I/O/MC9-12 (io), 84 I/O/MC9-14 (io), 85 I/O/MC9-15 (io), 86 I/O/MC9-17 (io), 87 I/O/MC11-2 (io), 88 I/O/MC11-3 (io), 89 I/O/MC11-5 (io), 90 I/O/MC11-6 (io), 91 I/O/MC11-8 (io), 92 I/O/MC11-9 (io), 93 I/O/MC11-11 (io), 94 VCC INT (power), 95 I/O/MC11-12 (io), 96 I/O/MC11-14 (io), 97 I/O/MC11-15 (io), 98 I/O/MC11-17 (io), 99 GND (power), 100 GND (power), 101 I/O/MC12-2 (io), 102 I/O/MC12-3 (io), 103 I/O/MC12-5 (io), 104 I/O/MC12-6 (io), 105 I/O/MC12-8 (io), 106 I/O/MC12-9 (io), 107 I/O/MC12-11 (io), 108 I/O/MC12-12 (io), 109 I/O/MC12-14 (io), 110 GND (power), 111 I/O/MC12-15 (io), 112 I/O/MC12-17 (io), 113 I/O/MC10-2 (io), 114 I/O/MC10-3 (io), 115 I/O/MC10-5 (io), 116 I/O/MC10-6 (io), 117 I/O/MC10-8 (io), 118 I/O/MC10-9 (io), 119 I/O/MC10-11 (io), 120 GND (power), 121 VCC IO (power), 122 I/O/MC10-12 (io), 123 I/O/MC10-14 (io), 124 I/O/MC10-15 (io), 125 I/O/MC10-17 (io), 126 I/O/MC8-2 (io), 127 GND (power), 128 I/O/MC8-3 (io), 129 I/O/MC8-5 (io), 130 I/O/MC8-6 (io), 131 I/O/MC8-8 (io), 132 I/O/MC8-9 (io), 133 I/O/MC8-11 (io), 134 I/O/MC8-12 (io), 135 I/O/MC8-14 (io), 136 TDO (out), 137 GND (power), 138 I/O/MC8-15 (io), 139 I/O/MC8-17 (io), 140 I/O/MC6-2 (io), 141 VCC IO (power), 142 I/O/MC6-3 (io), 143 I/O/MC6-5 (io), 144 I/O/MC6-6 (io), 145 I/O/MC6-8 (io), 146 I/O/MC6-9 (io), 147 I/O/MC6-11 (io), 148 I/O/MC6-12 (io), 149 I/O/MC6-14 (io), 150 I/O/MC6-15 (io), 151 I/O/MC6-17 (io), 152 I/O/MC4-2 (io), 153 I/O/MC4-3 (io), 154 I/O/MC4-5 (io), 155 I/O/MC4-6 (io), 156 I/O/MC4-8 (io), 157 VCC INT (power), 158 I/O/MC4-9 (io), 159 I/O/GSR/MC4-11 (io), 160 GND (power)

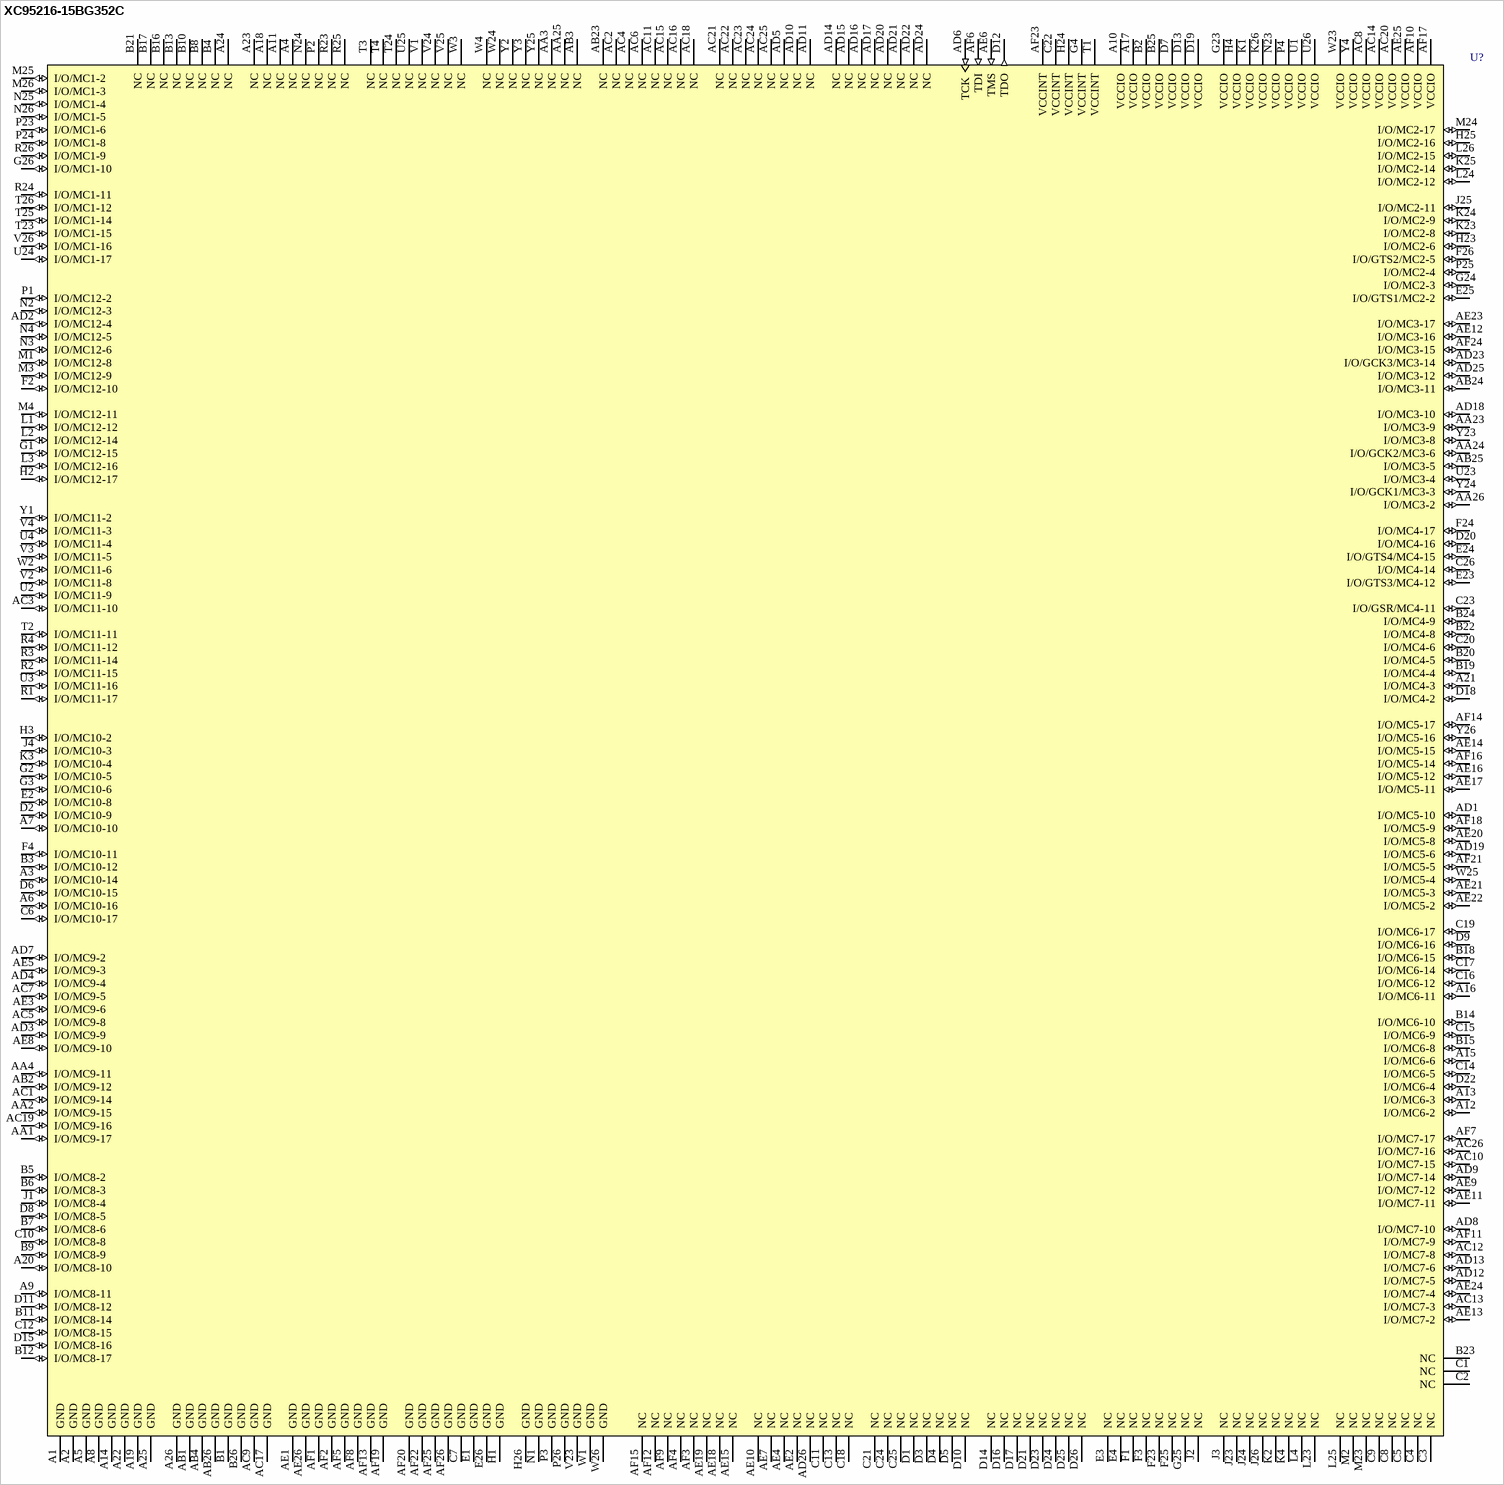
[diagram p29: symbol XC95216-15BG352C]

## XC95216-15BG352C
designator U?
XC9500, 5V CPLD with 216 Macrocells, 352-Ball BGA, Commercial Grade; PackageDocument: ver1.1, Apr-2001; Published: 8-Jun-2000; LatestRevisionDate: 17-Jul-2002; LatestRevisionNote: Re-released for DXP Platform.; DatasheetDocument: ver4.1, Aug-2003; PackageReference: BG352; Publisher: Altium Limited; Code_JEDEC: MO-192-BAR-2
footprint BG352 (352-Ball Metal Ball Grid Array (BG352))
3D model XC95216-BG352 (352-Ball Metal Ball Grid Array (BG352))
signal-integrity model XC95216_BGA352 (XC9500)
pins: A1 GND (power), A2 GND (power), A3 I/O/MC10-14 (io), A4 NC, A5 GND (power), A6 I/O/MC10-16 (io), A7 I/O/MC10-10 (io), A8 GND (power), A9 I/O/MC8-11 (io), A10 VCCIO (power), A11 NC, A12 I/O/MC6-2 (io), A13 I/O/MC6-3 (io), A14 GND (power), A15 I/O/MC6-6 (io), A16 I/O/MC6-11 (io), A17 VCCIO (power), A18 NC, A19 GND (power), A20 I/O/MC8-10 (io), A21 I/O/MC4-3 (io), A22 GND (power), A23 NC, A24 NC, A25 GND (power), A26 GND (power), AA1 I/O/MC9-17 (io), AA2 I/O/MC9-15 (io), AA3 NC, AA4 I/O/MC9-11 (io), AA23 I/O/MC3-9 (io), AA24 I/O/GCK2/MC3-6 (io), AA25 NC, AA26 I/O/MC3-2 (io), AB1 GND (power), AB2 I/O/MC9-12 (io), AB3 NC, AB4 GND (power), AB23 NC, AB24 I/O/MC3-11 (io), AB25 I/O/MC3-5 (io), AB26 GND (power), AC1 I/O/MC9-14 (io), AC2 NC, AC3 I/O/MC11-10 (io), AC4 NC, AC5 I/O/MC9-8 (io), AC6 NC, AC7 I/O/MC9-5 (io), AC8 VCCIO (power), AC9 GND (power), AC10 I/O/MC7-15 (io), AC11 NC, AC12 I/O/MC7-8 (io), AC13 I/O/MC7-3 (io), AC14 VCCIO (power), AC15 NC, AC16 NC, AC17 GND (power), AC18 NC, AC19 I/O/MC9-16 (io), AC20 VCCIO (power), AC21 NC, AC22 NC, AC23 NC, AC24 NC, AC25 NC, AC26 I/O/MC7-16 (io), AD1 I/O/MC5-10 (io), AD2 I/O/MC12-4 (io), AD3 I/O/MC9-9 (io), AD4 I/O/MC9-4 (io), AD5 NC, AD6 TCK (in), AD7 I/O/MC9-2 (io), AD8 I/O/MC7-10 (io), AD9 I/O/MC7-14 (io), AD10 NC, AD11 NC, AD12 I/O/MC7-5 (io), AD13 I/O/MC7-6 (io), AD14 NC, AD15 NC, AD16 NC, AD17 NC, AD18 I/O/MC3-10 (io), AD19 I/O/MC5-6 (io), AD20 NC, AD21 NC, AD22 NC, AD23 I/O/GCK3/MC3-14 (io), AD24 NC, AD25 I/O/MC3-12 (io), AD26 NC, AE1 GND (power), AE2 NC, AE3 I/O/MC9-6 (io), AE4 NC, AE5 I/O/MC9-3 (io), AE6 TMS (in), AE7 NC, AE8 I/O/MC9-10 (io), AE9 I/O/MC7-12 (io), AE10 NC, AE11 I/O/MC7-11 (io), AE12 I/O/MC3-16 (io), AE13 I/O/MC7-2 (io), AE14 I/O/MC5-15 (io), AE15 NC, AE16 I/O/MC5-12 (io), AE17 I/O/MC5-11 (io), AE18 NC, AE19 NC, AE20 I/O/MC5-8 (io), AE21 I/O/MC5-3 (io), AE22 I/O/MC5-2 (io), AE23 I/O/MC3-17 (io), AE24 I/O/MC7-4 (io), AE25 VCCIO (power), AE26 GND (power), AF1 GND (power), AF2 GND (power), AF3 NC, AF4 NC, AF5 GND (power), AF6 TDI (in), AF7 I/O/MC7-17 (io), AF8 GND (power), AF9 NC, AF10 VCCIO (power), AF11 I/O/MC7-9 (io), AF12 NC, AF13 GND (power), AF14 I/O/MC5-17 (io), AF15 NC, AF16 I/O/MC5-14 (io), AF17 VCCIO (power), AF18 I/O/MC5-9 (io), AF19 GND (power), AF20 GND (power), AF21 I/O/MC5-5 (io), AF22 GND (power), AF23 VCCINT (power), AF24 I/O/MC3-15 (io), AF25 GND (power), AF26 GND (power), B1 GND (power), B2 VCCIO (power), B3 I/O/MC10-12 (io), B4 NC, B5 I/O/MC8-2 (io), B6 I/O/MC8-3 (io), B7 I/O/MC8-6 (io), B8 NC, B9 I/O/MC8-9 (io), B10 NC, B11 I/O/MC8-14 (io), B12 I/O/MC8-17 (io), B13 NC, B14 I/O/MC6-10 (io), B15 I/O/MC6-8 (io), B16 NC, B17 NC, B18 I/O/MC6-15 (io), B19 I/O/MC4-4 (io), B20 I/O/MC4-5 (io), B21 NC, B22 I/O/MC4-8 (io), B23 NC, B24 I/O/MC4-9 (io), B25 VCCIO (power), B26 GND (power), C1 NC, C2 NC, C3 NC, C4 NC, C5 NC, C6 I/O/MC10-17 (io), C7 GND (power), C8 NC, C9 NC, C10 I/O/MC8-8 (io), C11 NC, C12 I/O/MC8-15 (io), C13 NC, C14 I/O/MC6-5 (io), C15 I/O/MC6-9 (io), C16 I/O/MC6-12 (io), C17 I/O/MC6-14 (io), C18 NC, C19 I/O/MC6-17 (io), C20 I/O/MC4-6 (io), C21 NC, C22 VCCINT (power), C23 I/O/GSR/MC4-11 (io), C24 NC, C25 NC, C26 I/O/MC4-14 (io), D1 NC, D2 I/O/MC10-9 (io), D3 NC, D4 NC, D5 NC, D6 I/O/MC10-15 (io), D7 VCCIO (power), D8 I/O/MC8-5 (io), D9 I/O/MC6-16 (io), D10 NC, D11 I/O/MC8-12 (io), D12 TDO (out), D13 VCCIO (power), D14 NC, D15 I/O/MC8-16 (io), D16 NC, D17 NC, D18 I/O/MC4-2 (io), D19 VCCIO (power), D20 I/O/MC4-16 (io), D21 NC, D22 I/O/MC6-4 (io), D23 NC, D24 NC, D25 NC, D26 NC, E1 GND (power), E2 I/O/MC10-8 (io), E3 NC, E4 NC, E23 I/O/GTS3/MC4-12 (io), E24 I/O/GTS4/MC4-15 (io), E25 I/O/GTS1/MC2-2 (io), E26 GND (power), F1 NC, F2 I/O/MC12-10 (io), F3 NC, F4 I/O/MC10-11 (io), F23 NC, F24 I/O/MC4-17 (io), F25 NC, F26 I/O/GTS2/MC2-5 (io), G1 I/O/MC12-15 (io), G2 I/O/MC10-5 (io), G3 I/O/MC10-6 (io), G4 VCCINT (power), G23 VCCIO (power), G24 I/O/MC2-3 (io), G25 NC, G26 I/O/MC1-10 (io), H1 GND (power), H2 I/O/MC12-17 (io), H3 I/O/MC10-2 (io), H4 VCCIO (power), H23 I/O/MC2-6 (io), H24 VCCINT (power), H25 I/O/MC2-16 (io), H26 GND (power), J1 I/O/MC8-4 (io), J2 NC, J3 NC, J4 I/O/MC10-3 (io), J23 NC, J24 NC, J25 I/O/MC2-11 (io), J26 NC, K1 VCCIO (power), K2 NC, K3 I/O/MC10-4 (io), K4 NC, K23 I/O/MC2-8 (io), K24 I/O/MC2-9 (io), K25 I/O/MC2-14 (io), K26 VCCIO (power), L1 I/O/MC12-12 (io), L2 I/O/MC12-14 (io), L3 I/O/MC12-16 (io), L4 NC, L23 NC, L24 I/O/MC2-12 (io), L25 NC, L26 I/O/MC2-15 (io), M1 I/O/MC12-8 (io), M2 NC, M3 I/O/MC12-9 (io), M4 I/O/MC12-11 (io), M23 NC, M24 I/O/MC2-17 (io), M25 I/O/MC1-2 (io), M26 I/O/MC1-3 (io), N1 GND (power), N2 I/O/MC12-3 (io), N3 I/O/MC12-6 (io), N4 I/O/MC12-5 (io), N23 VCCIO (power), N24 NC, N25 I/O/MC1-4 (io), N26 I/O/MC1-5 (io), P1 I/O/MC12-2 (io), P2 NC, P3 GND (power), P4 VCCIO (power), P23 I/O/MC1-6 (io), P24 I/O/MC1-8 (io), P25 I/O/MC2-4 (io), P26 GND (power), R1 I/O/MC11-17 (io), R2 I/O/MC11-15 (io), R3 I/O/MC11-14 (io), R4 I/O/MC11-12 (io), R23 NC, R24 I/O/MC1-11 (io), R25 NC, R26 I/O/MC1-9 (io), T1 VCCINT (power), T2 I/O/MC11-11 (io), T3 NC, T4 NC, T23 I/O/MC1-15 (io), T24 NC, T25 I/O/MC1-14 (io), T26 I/O/MC1-12 (io), U1 VCCIO (power), U2 I/O/MC11-9 (io), U3 I/O/MC11-16 (io), U4 I/O/MC11-4 (io), U23 I/O/MC3-4 (io), U24 I/O/MC1-17 (io), U25 NC, U26 VCCIO (power), V1 NC, V2 I/O/MC11-8 (io), V3 I/O/MC11-5 (io), V4 I/O/MC11-3 (io), V23 GND (power), V24 NC, V25 NC, V26 I/O/MC1-16 (io), W1 GND (power), W2 I/O/MC11-6 (io), W3 NC, W4 NC, W23 VCCIO (power), W24 NC, W25 I/O/MC5-4 (io), W26 GND (power), Y1 I/O/MC11-2 (io), Y2 NC, Y3 NC, Y4 VCCIO (power), Y23 I/O/MC3-8 (io), Y24 I/O/GCK1/MC3-3 (io), Y25 NC, Y26 I/O/MC5-16 (io)

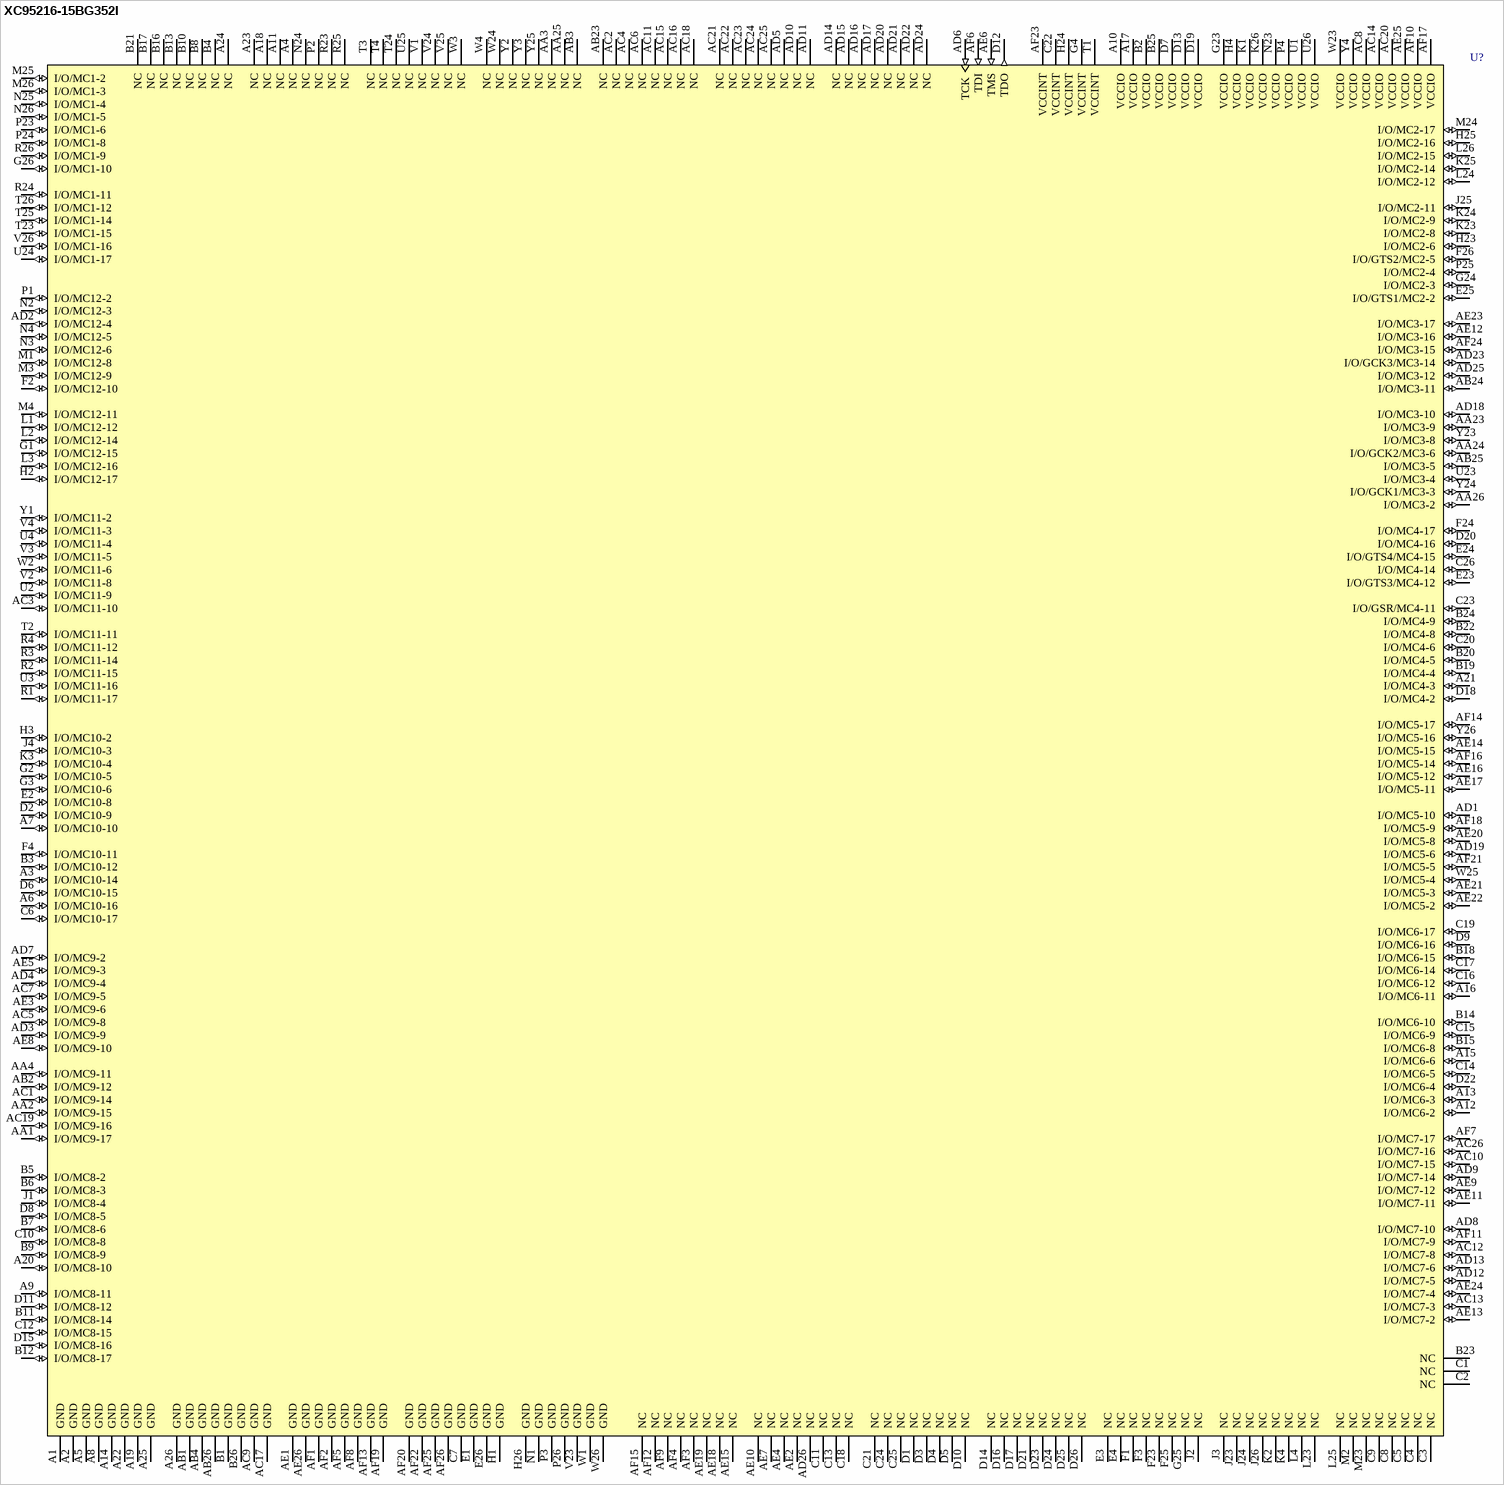
[diagram p30: symbol XC95216-15BG352I]

## XC95216-15BG352I
designator U?
XC9500, 5V CPLD with 216 Macrocells, 352-Ball BGA, Industrial Grade; PackageDocument: ver1.1, Apr-2001; Published: 8-Jun-2000; LatestRevisionDate: 17-Jul-2002; LatestRevisionNote: Re-released for DXP Platform.; DatasheetDocument: ver4.1, Aug-2003; PackageReference: BG352; Publisher: Altium Limited; Code_JEDEC: MO-192-BAR-2
footprint BG352 (352-Ball Metal Ball Grid Array (BG352))
3D model XC95216-BG352 (352-Ball Metal Ball Grid Array (BG352))
signal-integrity model XC95216_BGA352 (XC9500)
pins: A1 GND (power), A2 GND (power), A3 I/O/MC10-14 (io), A4 NC, A5 GND (power), A6 I/O/MC10-16 (io), A7 I/O/MC10-10 (io), A8 GND (power), A9 I/O/MC8-11 (io), A10 VCCIO (power), A11 NC, A12 I/O/MC6-2 (io), A13 I/O/MC6-3 (io), A14 GND (power), A15 I/O/MC6-6 (io), A16 I/O/MC6-11 (io), A17 VCCIO (power), A18 NC, A19 GND (power), A20 I/O/MC8-10 (io), A21 I/O/MC4-3 (io), A22 GND (power), A23 NC, A24 NC, A25 GND (power), A26 GND (power), AA1 I/O/MC9-17 (io), AA2 I/O/MC9-15 (io), AA3 NC, AA4 I/O/MC9-11 (io), AA23 I/O/MC3-9 (io), AA24 I/O/GCK2/MC3-6 (io), AA25 NC, AA26 I/O/MC3-2 (io), AB1 GND (power), AB2 I/O/MC9-12 (io), AB3 NC, AB4 GND (power), AB23 NC, AB24 I/O/MC3-11 (io), AB25 I/O/MC3-5 (io), AB26 GND (power), AC1 I/O/MC9-14 (io), AC2 NC, AC3 I/O/MC11-10 (io), AC4 NC, AC5 I/O/MC9-8 (io), AC6 NC, AC7 I/O/MC9-5 (io), AC8 VCCIO (power), AC9 GND (power), AC10 I/O/MC7-15 (io), AC11 NC, AC12 I/O/MC7-8 (io), AC13 I/O/MC7-3 (io), AC14 VCCIO (power), AC15 NC, AC16 NC, AC17 GND (power), AC18 NC, AC19 I/O/MC9-16 (io), AC20 VCCIO (power), AC21 NC, AC22 NC, AC23 NC, AC24 NC, AC25 NC, AC26 I/O/MC7-16 (io), AD1 I/O/MC5-10 (io), AD2 I/O/MC12-4 (io), AD3 I/O/MC9-9 (io), AD4 I/O/MC9-4 (io), AD5 NC, AD6 TCK (in), AD7 I/O/MC9-2 (io), AD8 I/O/MC7-10 (io), AD9 I/O/MC7-14 (io), AD10 NC, AD11 NC, AD12 I/O/MC7-5 (io), AD13 I/O/MC7-6 (io), AD14 NC, AD15 NC, AD16 NC, AD17 NC, AD18 I/O/MC3-10 (io), AD19 I/O/MC5-6 (io), AD20 NC, AD21 NC, AD22 NC, AD23 I/O/GCK3/MC3-14 (io), AD24 NC, AD25 I/O/MC3-12 (io), AD26 NC, AE1 GND (power), AE2 NC, AE3 I/O/MC9-6 (io), AE4 NC, AE5 I/O/MC9-3 (io), AE6 TMS (in), AE7 NC, AE8 I/O/MC9-10 (io), AE9 I/O/MC7-12 (io), AE10 NC, AE11 I/O/MC7-11 (io), AE12 I/O/MC3-16 (io), AE13 I/O/MC7-2 (io), AE14 I/O/MC5-15 (io), AE15 NC, AE16 I/O/MC5-12 (io), AE17 I/O/MC5-11 (io), AE18 NC, AE19 NC, AE20 I/O/MC5-8 (io), AE21 I/O/MC5-3 (io), AE22 I/O/MC5-2 (io), AE23 I/O/MC3-17 (io), AE24 I/O/MC7-4 (io), AE25 VCCIO (power), AE26 GND (power), AF1 GND (power), AF2 GND (power), AF3 NC, AF4 NC, AF5 GND (power), AF6 TDI (in), AF7 I/O/MC7-17 (io), AF8 GND (power), AF9 NC, AF10 VCCIO (power), AF11 I/O/MC7-9 (io), AF12 NC, AF13 GND (power), AF14 I/O/MC5-17 (io), AF15 NC, AF16 I/O/MC5-14 (io), AF17 VCCIO (power), AF18 I/O/MC5-9 (io), AF19 GND (power), AF20 GND (power), AF21 I/O/MC5-5 (io), AF22 GND (power), AF23 VCCINT (power), AF24 I/O/MC3-15 (io), AF25 GND (power), AF26 GND (power), B1 GND (power), B2 VCCIO (power), B3 I/O/MC10-12 (io), B4 NC, B5 I/O/MC8-2 (io), B6 I/O/MC8-3 (io), B7 I/O/MC8-6 (io), B8 NC, B9 I/O/MC8-9 (io), B10 NC, B11 I/O/MC8-14 (io), B12 I/O/MC8-17 (io), B13 NC, B14 I/O/MC6-10 (io), B15 I/O/MC6-8 (io), B16 NC, B17 NC, B18 I/O/MC6-15 (io), B19 I/O/MC4-4 (io), B20 I/O/MC4-5 (io), B21 NC, B22 I/O/MC4-8 (io), B23 NC, B24 I/O/MC4-9 (io), B25 VCCIO (power), B26 GND (power), C1 NC, C2 NC, C3 NC, C4 NC, C5 NC, C6 I/O/MC10-17 (io), C7 GND (power), C8 NC, C9 NC, C10 I/O/MC8-8 (io), C11 NC, C12 I/O/MC8-15 (io), C13 NC, C14 I/O/MC6-5 (io), C15 I/O/MC6-9 (io), C16 I/O/MC6-12 (io), C17 I/O/MC6-14 (io), C18 NC, C19 I/O/MC6-17 (io), C20 I/O/MC4-6 (io), C21 NC, C22 VCCINT (power), C23 I/O/GSR/MC4-11 (io), C24 NC, C25 NC, C26 I/O/MC4-14 (io), D1 NC, D2 I/O/MC10-9 (io), D3 NC, D4 NC, D5 NC, D6 I/O/MC10-15 (io), D7 VCCIO (power), D8 I/O/MC8-5 (io), D9 I/O/MC6-16 (io), D10 NC, D11 I/O/MC8-12 (io), D12 TDO (out), D13 VCCIO (power), D14 NC, D15 I/O/MC8-16 (io), D16 NC, D17 NC, D18 I/O/MC4-2 (io), D19 VCCIO (power), D20 I/O/MC4-16 (io), D21 NC, D22 I/O/MC6-4 (io), D23 NC, D24 NC, D25 NC, D26 NC, E1 GND (power), E2 I/O/MC10-8 (io), E3 NC, E4 NC, E23 I/O/GTS3/MC4-12 (io), E24 I/O/GTS4/MC4-15 (io), E25 I/O/GTS1/MC2-2 (io), E26 GND (power), F1 NC, F2 I/O/MC12-10 (io), F3 NC, F4 I/O/MC10-11 (io), F23 NC, F24 I/O/MC4-17 (io), F25 NC, F26 I/O/GTS2/MC2-5 (io), G1 I/O/MC12-15 (io), G2 I/O/MC10-5 (io), G3 I/O/MC10-6 (io), G4 VCCINT (power), G23 VCCIO (power), G24 I/O/MC2-3 (io), G25 NC, G26 I/O/MC1-10 (io), H1 GND (power), H2 I/O/MC12-17 (io), H3 I/O/MC10-2 (io), H4 VCCIO (power), H23 I/O/MC2-6 (io), H24 VCCINT (power), H25 I/O/MC2-16 (io), H26 GND (power), J1 I/O/MC8-4 (io), J2 NC, J3 NC, J4 I/O/MC10-3 (io), J23 NC, J24 NC, J25 I/O/MC2-11 (io), J26 NC, K1 VCCIO (power), K2 NC, K3 I/O/MC10-4 (io), K4 NC, K23 I/O/MC2-8 (io), K24 I/O/MC2-9 (io), K25 I/O/MC2-14 (io), K26 VCCIO (power), L1 I/O/MC12-12 (io), L2 I/O/MC12-14 (io), L3 I/O/MC12-16 (io), L4 NC, L23 NC, L24 I/O/MC2-12 (io), L25 NC, L26 I/O/MC2-15 (io), M1 I/O/MC12-8 (io), M2 NC, M3 I/O/MC12-9 (io), M4 I/O/MC12-11 (io), M23 NC, M24 I/O/MC2-17 (io), M25 I/O/MC1-2 (io), M26 I/O/MC1-3 (io), N1 GND (power), N2 I/O/MC12-3 (io), N3 I/O/MC12-6 (io), N4 I/O/MC12-5 (io), N23 VCCIO (power), N24 NC, N25 I/O/MC1-4 (io), N26 I/O/MC1-5 (io), P1 I/O/MC12-2 (io), P2 NC, P3 GND (power), P4 VCCIO (power), P23 I/O/MC1-6 (io), P24 I/O/MC1-8 (io), P25 I/O/MC2-4 (io), P26 GND (power), R1 I/O/MC11-17 (io), R2 I/O/MC11-15 (io), R3 I/O/MC11-14 (io), R4 I/O/MC11-12 (io), R23 NC, R24 I/O/MC1-11 (io), R25 NC, R26 I/O/MC1-9 (io), T1 VCCINT (power), T2 I/O/MC11-11 (io), T3 NC, T4 NC, T23 I/O/MC1-15 (io), T24 NC, T25 I/O/MC1-14 (io), T26 I/O/MC1-12 (io), U1 VCCIO (power), U2 I/O/MC11-9 (io), U3 I/O/MC11-16 (io), U4 I/O/MC11-4 (io), U23 I/O/MC3-4 (io), U24 I/O/MC1-17 (io), U25 NC, U26 VCCIO (power), V1 NC, V2 I/O/MC11-8 (io), V3 I/O/MC11-5 (io), V4 I/O/MC11-3 (io), V23 GND (power), V24 NC, V25 NC, V26 I/O/MC1-16 (io), W1 GND (power), W2 I/O/MC11-6 (io), W3 NC, W4 NC, W23 VCCIO (power), W24 NC, W25 I/O/MC5-4 (io), W26 GND (power), Y1 I/O/MC11-2 (io), Y2 NC, Y3 NC, Y4 VCCIO (power), Y23 I/O/MC3-8 (io), Y24 I/O/GCK1/MC3-3 (io), Y25 NC, Y26 I/O/MC5-16 (io)

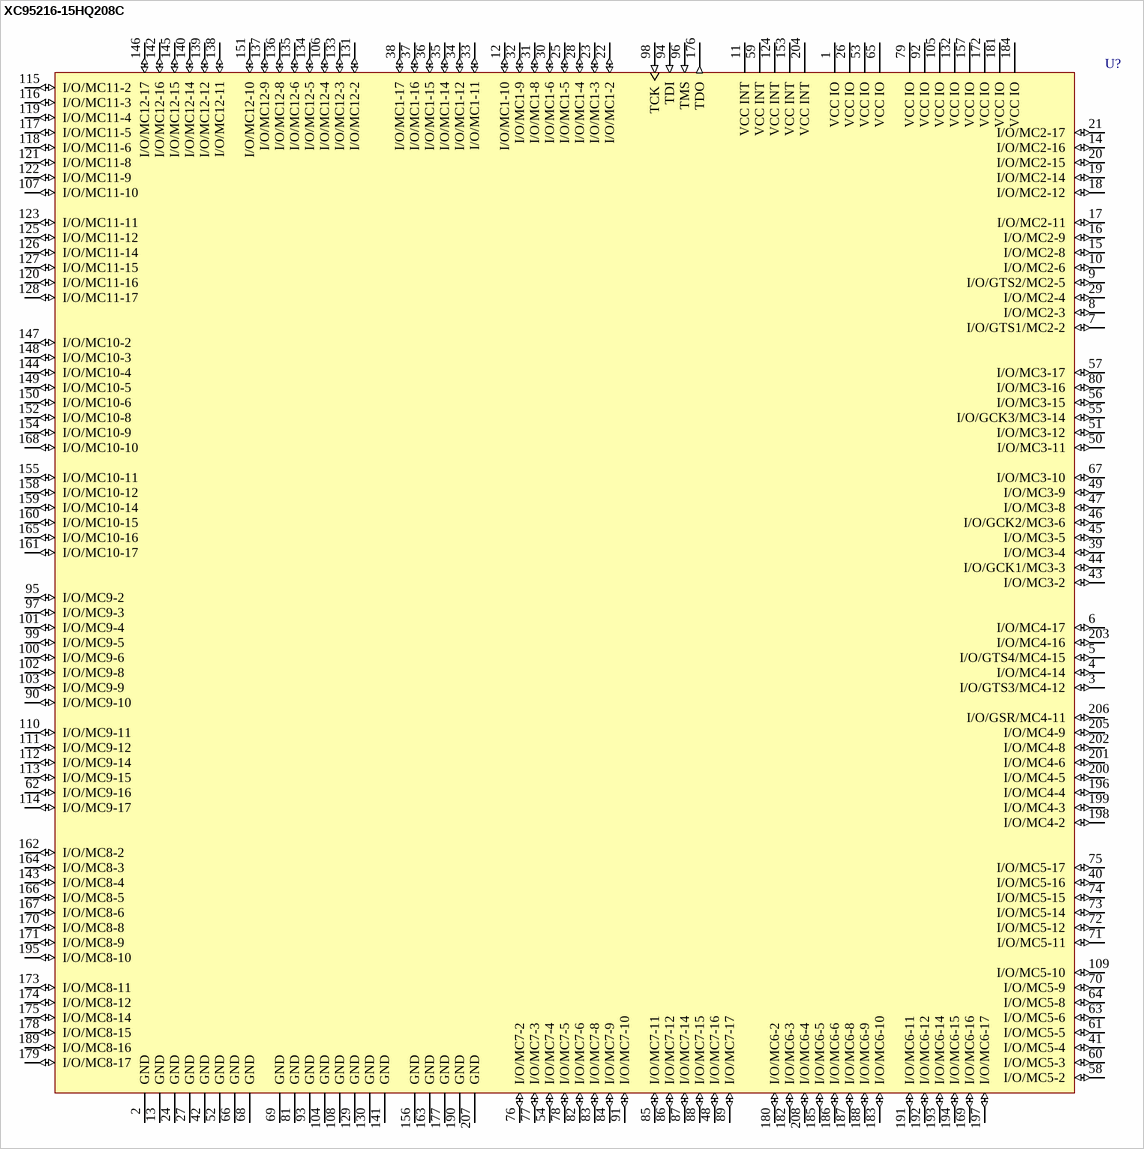
[diagram p31: symbol XC95216-15HQ208C]

## XC95216-15HQ208C
designator U?
XC9500, 5V CPLD with 216 Macrocells, 208-Pin HQFP, Commercial Grade; PackageDocument: ver1.1, Oct-2002; Published: 8-Jun-2000; LatestRevisionDate: 17-Sep-2003; LatestRevisionNote: PCB Footprint dimensions updated; DatasheetDocument: ver4.1, Aug-2003; PackageReference: HQ208; Publisher: Altium Limited; Code_JEDEC: MS-029-FA-1
footprint HQ208 (208-Pin Heat Sink Quad Flat Pack (HQ208))
3D model XC95216-HQ208 (208-Pin Heat Sink Quad Flat Pack (HQ208))
signal-integrity model XC95216_HQ208 (XC9500)
pins: 1 VCC IO (power), 2 GND (power), 3 I/O/GTS3/MC4-12 (io), 4 I/O/MC4-14 (io), 5 I/O/GTS4/MC4-15 (io), 6 I/O/MC4-17 (io), 7 I/O/GTS1/MC2-2 (io), 8 I/O/MC2-3 (io), 9 I/O/GTS2/MC2-5 (io), 10 I/O/MC2-6 (io), 11 VCC INT (power), 12 I/O/MC1-10 (io), 13 GND (power), 14 I/O/MC2-16 (io), 15 I/O/MC2-8 (io), 16 I/O/MC2-9 (io), 17 I/O/MC2-11 (io), 18 I/O/MC2-12 (io), 19 I/O/MC2-14 (io), 20 I/O/MC2-15 (io), 21 I/O/MC2-17 (io), 22 I/O/MC1-2 (io), 23 I/O/MC1-3 (io), 24 GND (power), 25 I/O/MC1-5 (io), 26 VCC IO (power), 27 GND (power), 28 I/O/MC1-4 (io), 29 I/O/MC2-4 (io), 30 I/O/MC1-6 (io), 31 I/O/MC1-8 (io), 32 I/O/MC1-9 (io), 33 I/O/MC1-11 (io), 34 I/O/MC1-12 (io), 35 I/O/MC1-14 (io), 36 I/O/MC1-15 (io), 37 I/O/MC1-16 (io), 38 I/O/MC1-17 (io), 39 I/O/MC3-4 (io), 40 I/O/MC5-16 (io), 41 I/O/MC5-4 (io), 42 GND (power), 43 I/O/MC3-2 (io), 44 I/O/GCK1/MC3-3 (io), 45 I/O/MC3-5 (io), 46 I/O/GCK2/MC3-6 (io), 47 I/O/MC3-8 (io), 48 I/O/MC7-16 (io), 49 I/O/MC3-9 (io), 50 I/O/MC3-11 (io), 51 I/O/MC3-12 (io), 52 GND (power), 53 VCC IO (power), 54 I/O/MC7-4 (io), 55 I/O/GCK3/MC3-14 (io), 56 I/O/MC3-15 (io), 57 I/O/MC3-17 (io), 58 I/O/MC5-2 (io), 59 VCC INT (power), 60 I/O/MC5-3 (io), 61 I/O/MC5-5 (io), 62 I/O/MC9-16 (io), 63 I/O/MC5-6 (io), 64 I/O/MC5-8 (io), 65 VCC IO (power), 66 GND (power), 67 I/O/MC3-10 (io), 68 GND (power), 69 GND (power), 70 I/O/MC5-9 (io), 71 I/O/MC5-11 (io), 72 I/O/MC5-12 (io), 73 I/O/MC5-14 (io), 74 I/O/MC5-15 (io), 75 I/O/MC5-17 (io), 76 I/O/MC7-2 (io), 77 I/O/MC7-3 (io), 78 I/O/MC7-5 (io), 79 VCC IO (power), 80 I/O/MC3-16 (io), 81 GND (power), 82 I/O/MC7-6 (io), 83 I/O/MC7-8 (io), 84 I/O/MC7-9 (io), 85 I/O/MC7-11 (io), 86 I/O/MC7-12 (io), 87 I/O/MC7-14 (io), 88 I/O/MC7-15 (io), 89 I/O/MC7-17 (io), 90 I/O/MC9-10 (io), 91 I/O/MC7-10 (io), 92 VCC IO (power), 93 GND (power), 94 TDI (in), 95 I/O/MC9-2 (io), 96 TMS (in), 97 I/O/MC9-3 (io), 98 TCK (in), 99 I/O/MC9-5 (io), 100 I/O/MC9-6 (io), 101 I/O/MC9-4 (io), 102 I/O/MC9-8 (io), 103 I/O/MC9-9 (io), 104 GND (power), 105 VCC IO (power), 106 I/O/MC12-4 (io), 107 I/O/MC11-10 (io), 108 GND (power), 109 I/O/MC5-10 (io), 110 I/O/MC9-11 (io), 111 I/O/MC9-12 (io), 112 I/O/MC9-14 (io), 113 I/O/MC9-15 (io), 114 I/O/MC9-17 (io), 115 I/O/MC11-2 (io), 116 I/O/MC11-3 (io), 117 I/O/MC11-5 (io), 118 I/O/MC11-6 (io), 119 I/O/MC11-4 (io), 120 I/O/MC11-16 (io), 121 I/O/MC11-8 (io), 122 I/O/MC11-9 (io), 123 I/O/MC11-11 (io), 124 VCC INT (power), 125 I/O/MC11-12 (io), 126 I/O/MC11-14 (io), 127 I/O/MC11-15 (io), 128 I/O/MC11-17 (io), 129 GND (power), 130 GND (power), 131 I/O/MC12-2 (io), 132 VCC IO (power), 133 I/O/MC12-3 (io), 134 I/O/MC12-5 (io), 135 I/O/MC12-6 (io), 136 I/O/MC12-8 (io), 137 I/O/MC12-9 (io), 138 I/O/MC12-11 (io), 139 I/O/MC12-12 (io), 140 I/O/MC12-14 (io), 141 GND (power), 142 I/O/MC12-16 (io), 143 I/O/MC8-4 (io), 144 I/O/MC10-4 (io), 145 I/O/MC12-15 (io), 146 I/O/MC12-17 (io), 147 I/O/MC10-2 (io), 148 I/O/MC10-3 (io), 149 I/O/MC10-5 (io), 150 I/O/MC10-6 (io), 151 I/O/MC12-10 (io), 152 I/O/MC10-8 (io), 153 VCC INT (power), 154 I/O/MC10-9 (io), 155 I/O/MC10-11 (io), 156 GND (power), 157 VCC IO (power), 158 I/O/MC10-12 (io), 159 I/O/MC10-14 (io), 160 I/O/MC10-15 (io), 161 I/O/MC10-17 (io), 162 I/O/MC8-2 (io), 163 GND (power), 164 I/O/MC8-3 (io), 165 I/O/MC10-16 (io), 166 I/O/MC8-5 (io), 167 I/O/MC8-6 (io), 168 I/O/MC10-10 (io), 169 I/O/MC6-16 (io), 170 I/O/MC8-8 (io), 171 I/O/MC8-9 (io), 172 VCC IO (power), 173 I/O/MC8-11 (io), 174 I/O/MC8-12 (io), 175 I/O/MC8-14 (io), 176 TDO (out), 177 GND (power), 178 I/O/MC8-15 (io), 179 I/O/MC8-17 (io), 180 I/O/MC6-2 (io), 181 VCC IO (power), 182 I/O/MC6-3 (io), 183 I/O/MC6-10 (io), 184 VCC IO (power), 185 I/O/MC6-5 (io), 186 I/O/MC6-6 (io), 187 I/O/MC6-8 (io), 188 I/O/MC6-9 (io), 189 I/O/MC8-16 (io), 190 GND (power), 191 I/O/MC6-11 (io), 192 I/O/MC6-12 (io), 193 I/O/MC6-14 (io), 194 I/O/MC6-15 (io), 195 I/O/MC8-10 (io), 196 I/O/MC4-4 (io), 197 I/O/MC6-17 (io), 198 I/O/MC4-2 (io), 199 I/O/MC4-3 (io), 200 I/O/MC4-5 (io), 201 I/O/MC4-6 (io), 202 I/O/MC4-8 (io), 203 I/O/MC4-16 (io), 204 VCC INT (power), 205 I/O/MC4-9 (io), 206 I/O/GSR/MC4-11 (io), 207 GND (power), 208 I/O/MC6-4 (io)

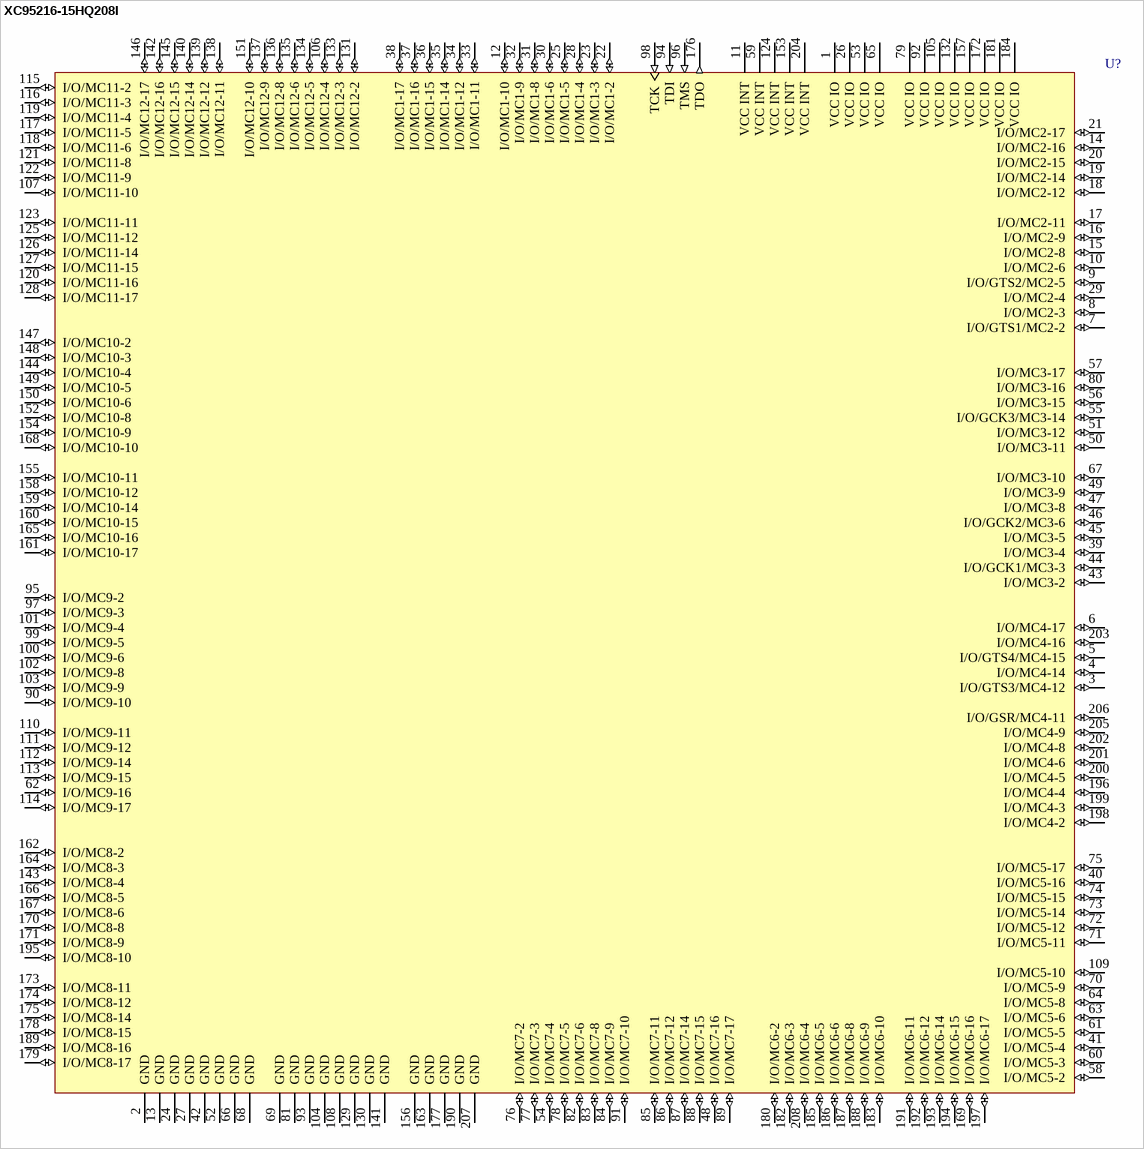
[diagram p32: symbol XC95216-15HQ208I]